# Altium integrated library Xilinx PLD XC9500.IntLib: 114 symbols (part 2 of 7)
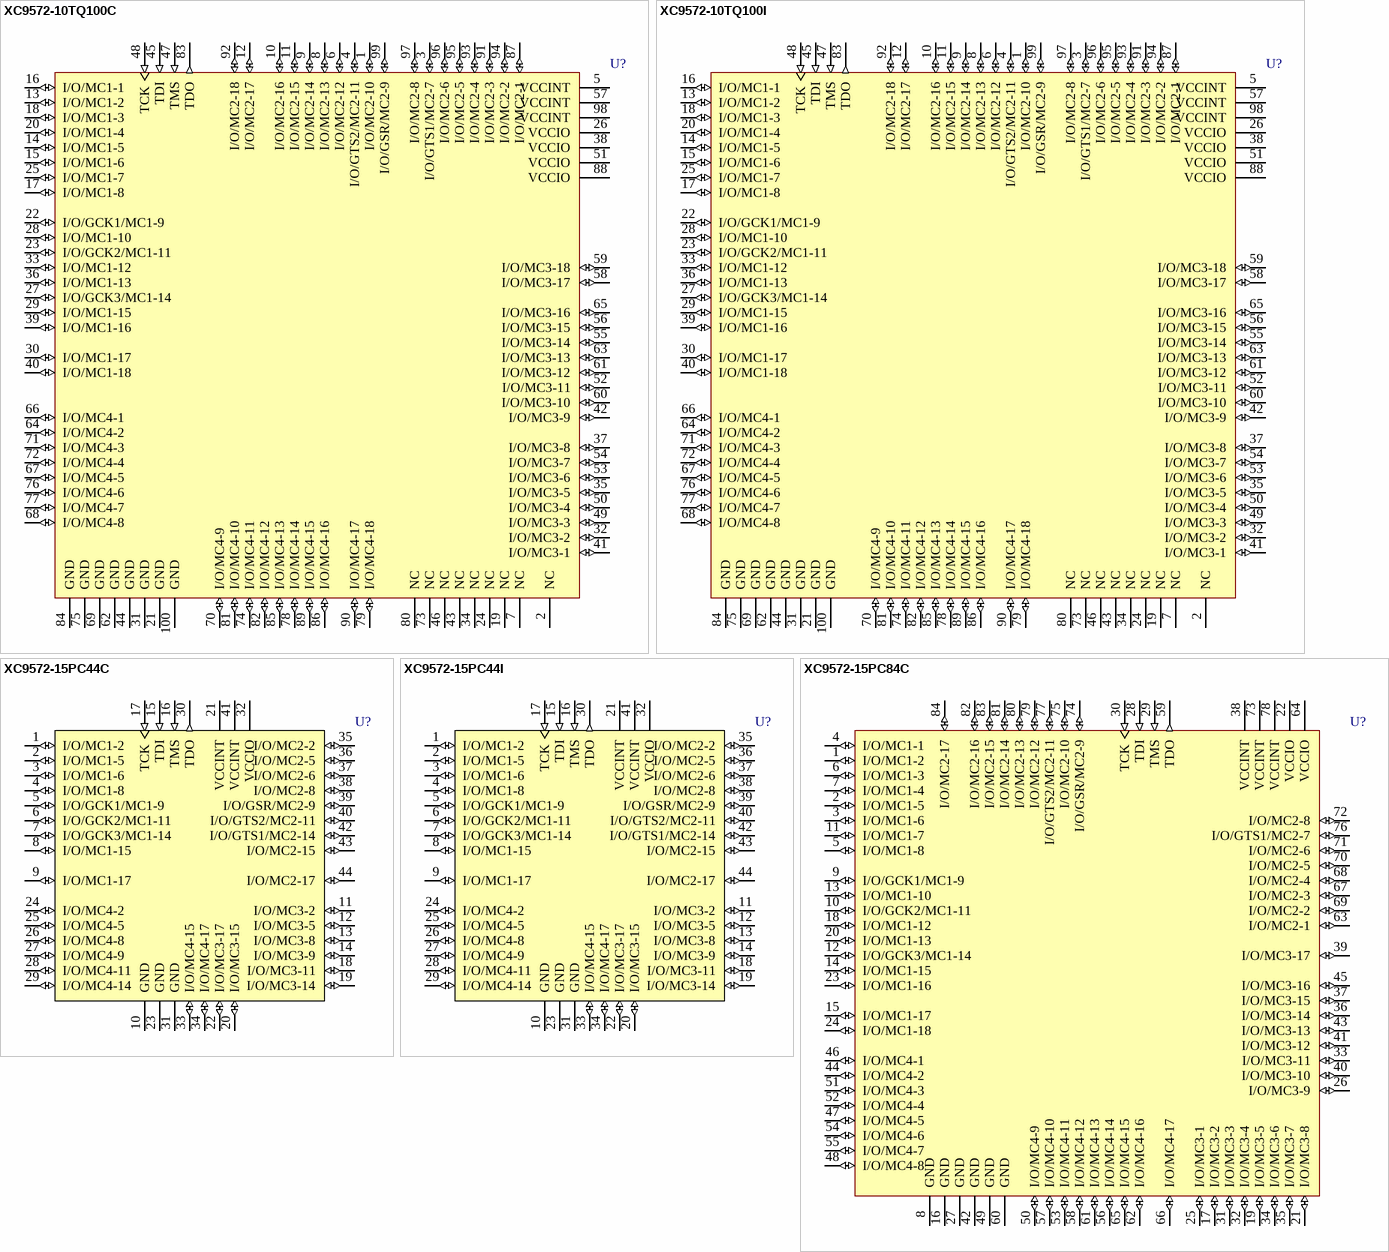
[diagram p51: symbols XC9572-10TQ100C to XC9572-15PC84C]

## XC9572-15PC44C
designator U?
XC9500, 5V CPLD with 72 Macrocells, 44-Pin PLCC, Commercial Grade; PackageDocument: ver1.0, Jun-2000; Published: 8-Jun-2000; LatestRevisionDate: 17-Sep-2003; LatestRevisionNote: PCB Footprint dimensions updated; DatasheetDocument: ver4.1, Aug-2003; PackageReference: PC44; Publisher: Altium Limited; Code_JEDEC: MS-047; Code_IPC: PLCC-44
footprint PC44 (44-Pin Plastic Leaded Chip Carrier (PC44))
3D model XC9572-PC44 (44-Pin Plastic Leaded Chip Carrier (PC44))
signal-integrity model XC9572_PLCC44 (XC9500)
pins: 1 I/O/MC1-2 (io), 2 I/O/MC1-5 (io), 3 I/O/MC1-6 (io), 4 I/O/MC1-8 (io), 5 I/O/GCK1/MC1-9 (io), 6 I/O/GCK2/MC1-11 (io), 7 I/O/GCK3/MC1-14 (io), 8 I/O/MC1-15 (io), 9 I/O/MC1-17 (io), 10 GND (power), 11 I/O/MC3-2 (io), 12 I/O/MC3-5 (io), 13 I/O/MC3-8 (io), 14 I/O/MC3-9 (io), 15 TDI (in), 16 TMS (in), 17 TCK (in), 18 I/O/MC3-11 (io), 19 I/O/MC3-14 (io), 20 I/O/MC3-15 (io), 21 VCCINT (power), 22 I/O/MC3-17 (io), 23 GND (power), 24 I/O/MC4-2 (io), 25 I/O/MC4-5 (io), 26 I/O/MC4-8 (io), 27 I/O/MC4-9 (io), 28 I/O/MC4-11 (io), 29 I/O/MC4-14 (io), 30 TDO (out), 31 GND (power), 32 VCCIO (power), 33 I/O/MC4-15 (io), 34 I/O/MC4-17 (io), 35 I/O/MC2-2 (io), 36 I/O/MC2-5 (io), 37 I/O/MC2-6 (io), 38 I/O/MC2-8 (io), 39 I/O/GSR/MC2-9 (io), 40 I/O/GTS2/MC2-11 (io), 41 VCCINT (power), 42 I/O/GTS1/MC2-14 (io), 43 I/O/MC2-15 (io), 44 I/O/MC2-17 (io)

## XC9572-15PC44I
designator U?
XC9500, 5V CPLD with 72 Macrocells, 44-Pin PLCC, Industrial Grade; PackageDocument: ver1.0, Jun-2000; Published: 8-Jun-2000; LatestRevisionDate: 17-Sep-2003; LatestRevisionNote: PCB Footprint dimensions updated; DatasheetDocument: ver4.1, Aug-2003; PackageReference: PC44; Publisher: Altium Limited; Code_JEDEC: MS-047; Code_IPC: PLCC-44
footprint PC44 (44-Pin Plastic Leaded Chip Carrier (PC44))
3D model XC9572-PC44 (44-Pin Plastic Leaded Chip Carrier (PC44))
signal-integrity model XC9572_PLCC44 (XC9500)
pins: 1 I/O/MC1-2 (io), 2 I/O/MC1-5 (io), 3 I/O/MC1-6 (io), 4 I/O/MC1-8 (io), 5 I/O/GCK1/MC1-9 (io), 6 I/O/GCK2/MC1-11 (io), 7 I/O/GCK3/MC1-14 (io), 8 I/O/MC1-15 (io), 9 I/O/MC1-17 (io), 10 GND (power), 11 I/O/MC3-2 (io), 12 I/O/MC3-5 (io), 13 I/O/MC3-8 (io), 14 I/O/MC3-9 (io), 15 TDI (in), 16 TMS (in), 17 TCK (in), 18 I/O/MC3-11 (io), 19 I/O/MC3-14 (io), 20 I/O/MC3-15 (io), 21 VCCINT (power), 22 I/O/MC3-17 (io), 23 GND (power), 24 I/O/MC4-2 (io), 25 I/O/MC4-5 (io), 26 I/O/MC4-8 (io), 27 I/O/MC4-9 (io), 28 I/O/MC4-11 (io), 29 I/O/MC4-14 (io), 30 TDO (out), 31 GND (power), 32 VCCIO (power), 33 I/O/MC4-15 (io), 34 I/O/MC4-17 (io), 35 I/O/MC2-2 (io), 36 I/O/MC2-5 (io), 37 I/O/MC2-6 (io), 38 I/O/MC2-8 (io), 39 I/O/GSR/MC2-9 (io), 40 I/O/GTS2/MC2-11 (io), 41 VCCINT (power), 42 I/O/GTS1/MC2-14 (io), 43 I/O/MC2-15 (io), 44 I/O/MC2-17 (io)

## XC9572-15PC84C
designator U?
XC9500, 5V CPLD with 72 Macrocells, 84-Pin PLCC, Commercial Grade; PackageDocument: ver1.0, Jun-2000; Published: 8-Jun-2000; LatestRevisionDate: 17-Sep-2003; LatestRevisionNote: PCB Footprint dimensions updated; DatasheetDocument: ver4.1, Aug-2003; PackageReference: PC84; Publisher: Altium Limited; Code_JEDEC: MS-047; Code_IPC: PLCC-84
footprint PC84 (84-Pin Plastic Leaded Chip Carrier (PC84))
3D model XC9572-PC84 (84-Pin Plastic Leaded Chip Carrier (PC84))
signal-integrity model XC9572_PLCC84 (XC9500)
pins: 1 I/O/MC1-2 (io), 2 I/O/MC1-5 (io), 3 I/O/MC1-6 (io), 4 I/O/MC1-1 (io), 5 I/O/MC1-8 (io), 6 I/O/MC1-3 (io), 7 I/O/MC1-4 (io), 8 GND (power), 9 I/O/GCK1/MC1-9 (io), 10 I/O/GCK2/MC1-11 (io), 11 I/O/MC1-7 (io), 12 I/O/GCK3/MC1-14 (io), 13 I/O/MC1-10 (io), 14 I/O/MC1-15 (io), 15 I/O/MC1-17 (io), 16 GND (power), 17 I/O/MC3-2 (io), 18 I/O/MC1-12 (io), 19 I/O/MC3-5 (io), 20 I/O/MC1-13 (io), 21 I/O/MC3-8 (io), 22 VCCIO (power), 23 I/O/MC1-16 (io), 24 I/O/MC1-18 (io), 25 I/O/MC3-1 (io), 26 I/O/MC3-9 (io), 27 GND (power), 28 TDI (in), 29 TMS (in), 30 TCK (in), 31 I/O/MC3-3 (io), 32 I/O/MC3-4 (io), 33 I/O/MC3-11 (io), 34 I/O/MC3-6 (io), 35 I/O/MC3-7 (io), 36 I/O/MC3-14 (io), 37 I/O/MC3-15 (io), 38 VCCINT (power), 39 I/O/MC3-17 (io), 40 I/O/MC3-10 (io), 41 I/O/MC3-12 (io), 42 GND (power), 43 I/O/MC3-13 (io), 44 I/O/MC4-2 (io), 45 I/O/MC3-16 (io), 46 I/O/MC4-1 (io), 47 I/O/MC4-5 (io), 48 I/O/MC4-8 (io), 49 GND (power), 50 I/O/MC4-9 (io), 51 I/O/MC4-3 (io), 52 I/O/MC4-4 (io), 53 I/O/MC4-11 (io), 54 I/O/MC4-6 (io), 55 I/O/MC4-7 (io), 56 I/O/MC4-14 (io), 57 I/O/MC4-10 (io), 58 I/O/MC4-12 (io), 59 TDO (out), 60 GND (power), 61 I/O/MC4-13 (io), 62 I/O/MC4-16 (io), 63 I/O/MC2-1 (io), 64 VCCIO (power), 65 I/O/MC4-15 (io), 66 I/O/MC4-17 (io), 67 I/O/MC2-3 (io), 68 I/O/MC2-4 (io), 69 I/O/MC2-2 (io), 70 I/O/MC2-5 (io), 71 I/O/MC2-6 (io), 72 I/O/MC2-8 (io), 73 VCCINT (power), 74 I/O/GSR/MC2-9 (io), 75 I/O/MC2-10 (io), 76 I/O/GTS1/MC2-7 (io), 77 I/O/GTS2/MC2-11 (io), 78 VCCINT (power), 79 I/O/MC2-12 (io), 80 I/O/MC2-13 (io), 81 I/O/MC2-14 (io), 82 I/O/MC2-16 (io), 83 I/O/MC2-15 (io), 84 I/O/MC2-17 (io)

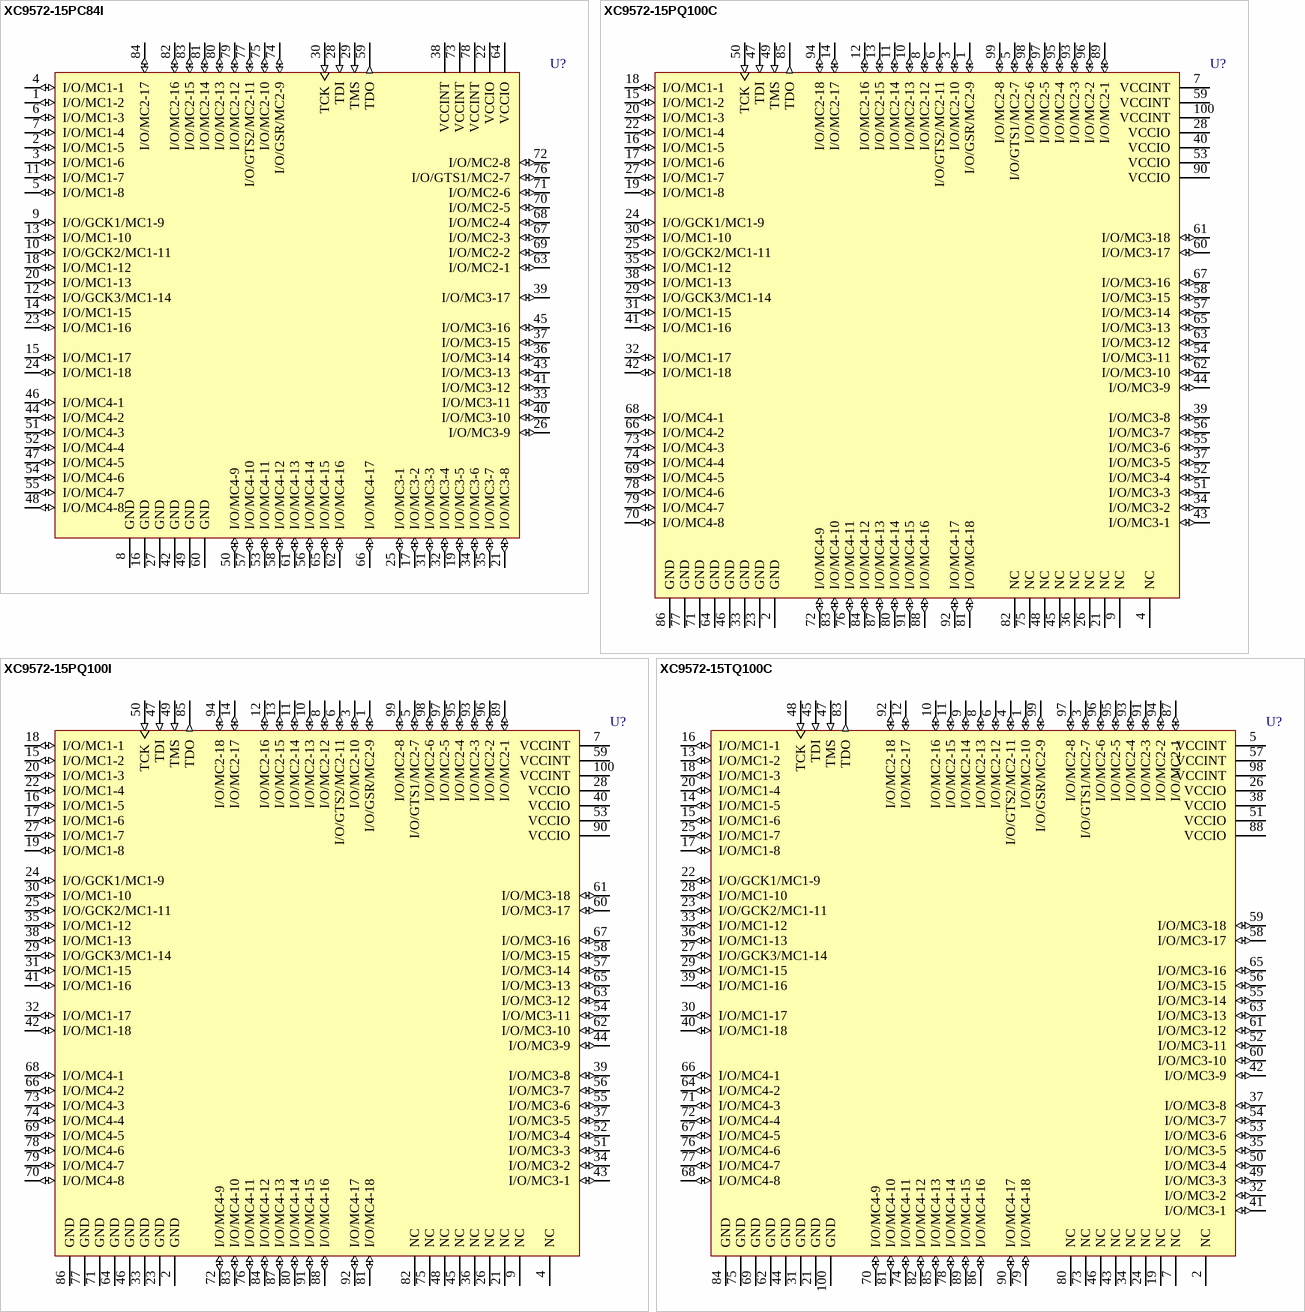
[diagram p5: symbols XC9572-15PC84I to XC9572-15TQ100C]

## XC9572-15PC84I
designator U?
XC9500, 5V CPLD with 72 Macrocells, 84-Pin PLCC, Industrial Grade; PackageDocument: ver1.0, Jun-2000; Published: 8-Jun-2000; LatestRevisionDate: 17-Sep-2003; LatestRevisionNote: PCB Footprint dimensions updated; DatasheetDocument: ver4.1, Aug-2003; PackageReference: PC84; Publisher: Altium Limited; Code_JEDEC: MS-047; Code_IPC: PLCC-84
footprint PC84 (84-Pin Plastic Leaded Chip Carrier (PC84))
3D model XC9572-PC84 (84-Pin Plastic Leaded Chip Carrier (PC84))
signal-integrity model XC9572_PLCC84 (XC9500)
pins: 1 I/O/MC1-2 (io), 2 I/O/MC1-5 (io), 3 I/O/MC1-6 (io), 4 I/O/MC1-1 (io), 5 I/O/MC1-8 (io), 6 I/O/MC1-3 (io), 7 I/O/MC1-4 (io), 8 GND (power), 9 I/O/GCK1/MC1-9 (io), 10 I/O/GCK2/MC1-11 (io), 11 I/O/MC1-7 (io), 12 I/O/GCK3/MC1-14 (io), 13 I/O/MC1-10 (io), 14 I/O/MC1-15 (io), 15 I/O/MC1-17 (io), 16 GND (power), 17 I/O/MC3-2 (io), 18 I/O/MC1-12 (io), 19 I/O/MC3-5 (io), 20 I/O/MC1-13 (io), 21 I/O/MC3-8 (io), 22 VCCIO (power), 23 I/O/MC1-16 (io), 24 I/O/MC1-18 (io), 25 I/O/MC3-1 (io), 26 I/O/MC3-9 (io), 27 GND (power), 28 TDI (in), 29 TMS (in), 30 TCK (in), 31 I/O/MC3-3 (io), 32 I/O/MC3-4 (io), 33 I/O/MC3-11 (io), 34 I/O/MC3-6 (io), 35 I/O/MC3-7 (io), 36 I/O/MC3-14 (io), 37 I/O/MC3-15 (io), 38 VCCINT (power), 39 I/O/MC3-17 (io), 40 I/O/MC3-10 (io), 41 I/O/MC3-12 (io), 42 GND (power), 43 I/O/MC3-13 (io), 44 I/O/MC4-2 (io), 45 I/O/MC3-16 (io), 46 I/O/MC4-1 (io), 47 I/O/MC4-5 (io), 48 I/O/MC4-8 (io), 49 GND (power), 50 I/O/MC4-9 (io), 51 I/O/MC4-3 (io), 52 I/O/MC4-4 (io), 53 I/O/MC4-11 (io), 54 I/O/MC4-6 (io), 55 I/O/MC4-7 (io), 56 I/O/MC4-14 (io), 57 I/O/MC4-10 (io), 58 I/O/MC4-12 (io), 59 TDO (out), 60 GND (power), 61 I/O/MC4-13 (io), 62 I/O/MC4-16 (io), 63 I/O/MC2-1 (io), 64 VCCIO (power), 65 I/O/MC4-15 (io), 66 I/O/MC4-17 (io), 67 I/O/MC2-3 (io), 68 I/O/MC2-4 (io), 69 I/O/MC2-2 (io), 70 I/O/MC2-5 (io), 71 I/O/MC2-6 (io), 72 I/O/MC2-8 (io), 73 VCCINT (power), 74 I/O/GSR/MC2-9 (io), 75 I/O/MC2-10 (io), 76 I/O/GTS1/MC2-7 (io), 77 I/O/GTS2/MC2-11 (io), 78 VCCINT (power), 79 I/O/MC2-12 (io), 80 I/O/MC2-13 (io), 81 I/O/MC2-14 (io), 82 I/O/MC2-16 (io), 83 I/O/MC2-15 (io), 84 I/O/MC2-17 (io)

## XC9572-15PQ100C
designator U?
XC9500, 5V CPLD with 72 Macrocells, 100-Pin PQFP, Commercial Grade; PackageDocument: ver1.2, Oct-2002; Published: 8-Jun-2000; LatestRevisionDate: 17-Sep-2003; LatestRevisionNote: PCB Footprint dimensions updated; DatasheetDocument: ver4.1, Aug-2003; PackageReference: PQ100; Publisher: Altium Limited; Code_IPC: QFP-14X20-100
footprint PQ100 (100-Pin Plastic Quad Flat Pack (PQ100))
3D model XC9572-PQ100 (100-Pin Plastic Quad Flat Pack (PQ100))
signal-integrity model XC9572_PQ100 (XC9500)
pins: 1 I/O/GSR/MC2-9 (io), 2 GND (power), 3 I/O/MC2-10 (io), 4 NC, 5 I/O/GTS1/MC2-7 (io), 6 I/O/GTS2/MC2-11 (io), 7 VCCINT (power), 8 I/O/MC2-12 (io), 9 NC, 10 I/O/MC2-13 (io), 11 I/O/MC2-14 (io), 12 I/O/MC2-16 (io), 13 I/O/MC2-15 (io), 14 I/O/MC2-17 (io), 15 I/O/MC1-2 (io), 16 I/O/MC1-5 (io), 17 I/O/MC1-6 (io), 18 I/O/MC1-1 (io), 19 I/O/MC1-8 (io), 20 I/O/MC1-3 (io), 21 NC, 22 I/O/MC1-4 (io), 23 GND (power), 24 I/O/GCK1/MC1-9 (io), 25 I/O/GCK2/MC1-11 (io), 26 NC, 27 I/O/MC1-7 (io), 28 VCCIO (power), 29 I/O/GCK3/MC1-14 (io), 30 I/O/MC1-10 (io), 31 I/O/MC1-15 (io), 32 I/O/MC1-17 (io), 33 GND (power), 34 I/O/MC3-2 (io), 35 I/O/MC1-12 (io), 36 NC, 37 I/O/MC3-5 (io), 38 I/O/MC1-13 (io), 39 I/O/MC3-8 (io), 40 VCCIO (power), 41 I/O/MC1-16 (io), 42 I/O/MC1-18 (io), 43 I/O/MC3-1 (io), 44 I/O/MC3-9 (io), 45 NC, 46 GND (power), 47 TDI (in), 48 NC, 49 TMS (in), 50 TCK (in), 51 I/O/MC3-3 (io), 52 I/O/MC3-4 (io), 53 VCCIO (power), 54 I/O/MC3-11 (io), 55 I/O/MC3-6 (io), 56 I/O/MC3-7 (io), 57 I/O/MC3-14 (io), 58 I/O/MC3-15 (io), 59 VCCINT (power), 60 I/O/MC3-17 (io), 61 I/O/MC3-18 (io), 62 I/O/MC3-10 (io), 63 I/O/MC3-12 (io), 64 GND (power), 65 I/O/MC3-13 (io), 66 I/O/MC4-2 (io), 67 I/O/MC3-16 (io), 68 I/O/MC4-1 (io), 69 I/O/MC4-5 (io), 70 I/O/MC4-8 (io), 71 GND (power), 72 I/O/MC4-9 (io), 73 I/O/MC4-3 (io), 74 I/O/MC4-4 (io), 75 NC, 76 I/O/MC4-11 (io), 77 GND (power), 78 I/O/MC4-6 (io), 79 I/O/MC4-7 (io), 80 I/O/MC4-14 (io), 81 I/O/MC4-18 (io), 82 NC, 83 I/O/MC4-10 (io), 84 I/O/MC4-12 (io), 85 TDO (out), 86 GND (power), 87 I/O/MC4-13 (io), 88 I/O/MC4-16 (io), 89 I/O/MC2-1 (io), 90 VCCIO (power), 91 I/O/MC4-15 (io), 92 I/O/MC4-17 (io), 93 I/O/MC2-3 (io), 94 I/O/MC2-18 (io), 95 I/O/MC2-4 (io), 96 I/O/MC2-2 (io), 97 I/O/MC2-5 (io), 98 I/O/MC2-6 (io), 99 I/O/MC2-8 (io), 100 VCCINT (power)

## XC9572-15PQ100I
designator U?
XC9500, 5V CPLD with 72 Macrocells, 100-Pin PQFP, Industrial Grade; PackageDocument: ver1.2, Oct-2002; Published: 8-Jun-2000; LatestRevisionDate: 17-Sep-2003; LatestRevisionNote: PCB Footprint dimensions updated; DatasheetDocument: ver4.1, Aug-2003; PackageReference: PQ100; Publisher: Altium Limited; Code_IPC: QFP-14X20-100
footprint PQ100 (100-Pin Plastic Quad Flat Pack (PQ100))
3D model XC9572-PQ100 (100-Pin Plastic Quad Flat Pack (PQ100))
signal-integrity model XC9572_PQ100 (XC9500)
pins: 1 I/O/GSR/MC2-9 (io), 2 GND (power), 3 I/O/MC2-10 (io), 4 NC, 5 I/O/GTS1/MC2-7 (io), 6 I/O/GTS2/MC2-11 (io), 7 VCCINT (power), 8 I/O/MC2-12 (io), 9 NC, 10 I/O/MC2-13 (io), 11 I/O/MC2-14 (io), 12 I/O/MC2-16 (io), 13 I/O/MC2-15 (io), 14 I/O/MC2-17 (io), 15 I/O/MC1-2 (io), 16 I/O/MC1-5 (io), 17 I/O/MC1-6 (io), 18 I/O/MC1-1 (io), 19 I/O/MC1-8 (io), 20 I/O/MC1-3 (io), 21 NC, 22 I/O/MC1-4 (io), 23 GND (power), 24 I/O/GCK1/MC1-9 (io), 25 I/O/GCK2/MC1-11 (io), 26 NC, 27 I/O/MC1-7 (io), 28 VCCIO (power), 29 I/O/GCK3/MC1-14 (io), 30 I/O/MC1-10 (io), 31 I/O/MC1-15 (io), 32 I/O/MC1-17 (io), 33 GND (power), 34 I/O/MC3-2 (io), 35 I/O/MC1-12 (io), 36 NC, 37 I/O/MC3-5 (io), 38 I/O/MC1-13 (io), 39 I/O/MC3-8 (io), 40 VCCIO (power), 41 I/O/MC1-16 (io), 42 I/O/MC1-18 (io), 43 I/O/MC3-1 (io), 44 I/O/MC3-9 (io), 45 NC, 46 GND (power), 47 TDI (in), 48 NC, 49 TMS (in), 50 TCK (in), 51 I/O/MC3-3 (io), 52 I/O/MC3-4 (io), 53 VCCIO (power), 54 I/O/MC3-11 (io), 55 I/O/MC3-6 (io), 56 I/O/MC3-7 (io), 57 I/O/MC3-14 (io), 58 I/O/MC3-15 (io), 59 VCCINT (power), 60 I/O/MC3-17 (io), 61 I/O/MC3-18 (io), 62 I/O/MC3-10 (io), 63 I/O/MC3-12 (io), 64 GND (power), 65 I/O/MC3-13 (io), 66 I/O/MC4-2 (io), 67 I/O/MC3-16 (io), 68 I/O/MC4-1 (io), 69 I/O/MC4-5 (io), 70 I/O/MC4-8 (io), 71 GND (power), 72 I/O/MC4-9 (io), 73 I/O/MC4-3 (io), 74 I/O/MC4-4 (io), 75 NC, 76 I/O/MC4-11 (io), 77 GND (power), 78 I/O/MC4-6 (io), 79 I/O/MC4-7 (io), 80 I/O/MC4-14 (io), 81 I/O/MC4-18 (io), 82 NC, 83 I/O/MC4-10 (io), 84 I/O/MC4-12 (io), 85 TDO (out), 86 GND (power), 87 I/O/MC4-13 (io), 88 I/O/MC4-16 (io), 89 I/O/MC2-1 (io), 90 VCCIO (power), 91 I/O/MC4-15 (io), 92 I/O/MC4-17 (io), 93 I/O/MC2-3 (io), 94 I/O/MC2-18 (io), 95 I/O/MC2-4 (io), 96 I/O/MC2-2 (io), 97 I/O/MC2-5 (io), 98 I/O/MC2-6 (io), 99 I/O/MC2-8 (io), 100 VCCINT (power)

## XC9572-15TQ100C
designator U?
XC9500, 5V CPLD with 72 Macrocells, 100-Pin TQFP, Commercial Grade; PackageDocument: ver1.1, Oct-2002; Published: 8-Jun-2000; LatestRevisionDate: 17-Jul-2002; LatestRevisionNote: Re-released for DXP Platform.; DatasheetDocument: ver4.1, Aug-2003; PackageReference: TQ100; Publisher: Altium Limited; Code_IPC: SQFP14X14-100
footprint TQ100 (100-Pin Thin Quad Flat Pack (TQ100))
3D model XC9572-TQ100 (100-Pin Thin Quad Flat Pack (TQ100))
signal-integrity model XC9572_TQ100 (XC9500)
pins: 1 I/O/MC2-10 (io), 2 NC, 3 I/O/GTS1/MC2-7 (io), 4 I/O/GTS2/MC2-11 (io), 5 VCCINT (power), 6 I/O/MC2-12 (io), 7 NC, 8 I/O/MC2-13 (io), 9 I/O/MC2-14 (io), 10 I/O/MC2-16 (io), 11 I/O/MC2-15 (io), 12 I/O/MC2-17 (io), 13 I/O/MC1-2 (io), 14 I/O/MC1-5 (io), 15 I/O/MC1-6 (io), 16 I/O/MC1-1 (io), 17 I/O/MC1-8 (io), 18 I/O/MC1-3 (io), 19 NC, 20 I/O/MC1-4 (io), 21 GND (power), 22 I/O/GCK1/MC1-9 (io), 23 I/O/GCK2/MC1-11 (io), 24 NC, 25 I/O/MC1-7 (io), 26 VCCIO (power), 27 I/O/GCK3/MC1-14 (io), 28 I/O/MC1-10 (io), 29 I/O/MC1-15 (io), 30 I/O/MC1-17 (io), 31 GND (power), 32 I/O/MC3-2 (io), 33 I/O/MC1-12 (io), 34 NC, 35 I/O/MC3-5 (io), 36 I/O/MC1-13 (io), 37 I/O/MC3-8 (io), 38 VCCIO (power), 39 I/O/MC1-16 (io), 40 I/O/MC1-18 (io), 41 I/O/MC3-1 (io), 42 I/O/MC3-9 (io), 43 NC, 44 GND (power), 45 TDI (in), 46 NC, 47 TMS (in), 48 TCK (in), 49 I/O/MC3-3 (io), 50 I/O/MC3-4 (io), 51 VCCIO (power), 52 I/O/MC3-11 (io), 53 I/O/MC3-6 (io), 54 I/O/MC3-7 (io), 55 I/O/MC3-14 (io), 56 I/O/MC3-15 (io), 57 VCCINT (power), 58 I/O/MC3-17 (io), 59 I/O/MC3-18 (io), 60 I/O/MC3-10 (io), 61 I/O/MC3-12 (io), 62 GND (power), 63 I/O/MC3-13 (io), 64 I/O/MC4-2 (io), 65 I/O/MC3-16 (io), 66 I/O/MC4-1 (io), 67 I/O/MC4-5 (io), 68 I/O/MC4-8 (io), 69 GND (power), 70 I/O/MC4-9 (io), 71 I/O/MC4-3 (io), 72 I/O/MC4-4 (io), 73 NC, 74 I/O/MC4-11 (io), 75 GND (power), 76 I/O/MC4-6 (io), 77 I/O/MC4-7 (io), 78 I/O/MC4-14 (io), 79 I/O/MC4-18 (io), 80 NC, 81 I/O/MC4-10 (io), 82 I/O/MC4-12 (io), 83 TDO (out), 84 GND (power), 85 I/O/MC4-13 (io), 86 I/O/MC4-16 (io), 87 I/O/MC2-1 (io), 88 VCCIO (power), 89 I/O/MC4-15 (io), 90 I/O/MC4-17 (io), 91 I/O/MC2-3 (io), 92 I/O/MC2-18 (io), 93 I/O/MC2-4 (io), 94 I/O/MC2-2 (io), 95 I/O/MC2-5 (io), 96 I/O/MC2-6 (io), 97 I/O/MC2-8 (io), 98 VCCINT (power), 99 I/O/GSR/MC2-9 (io), 100 GND (power)

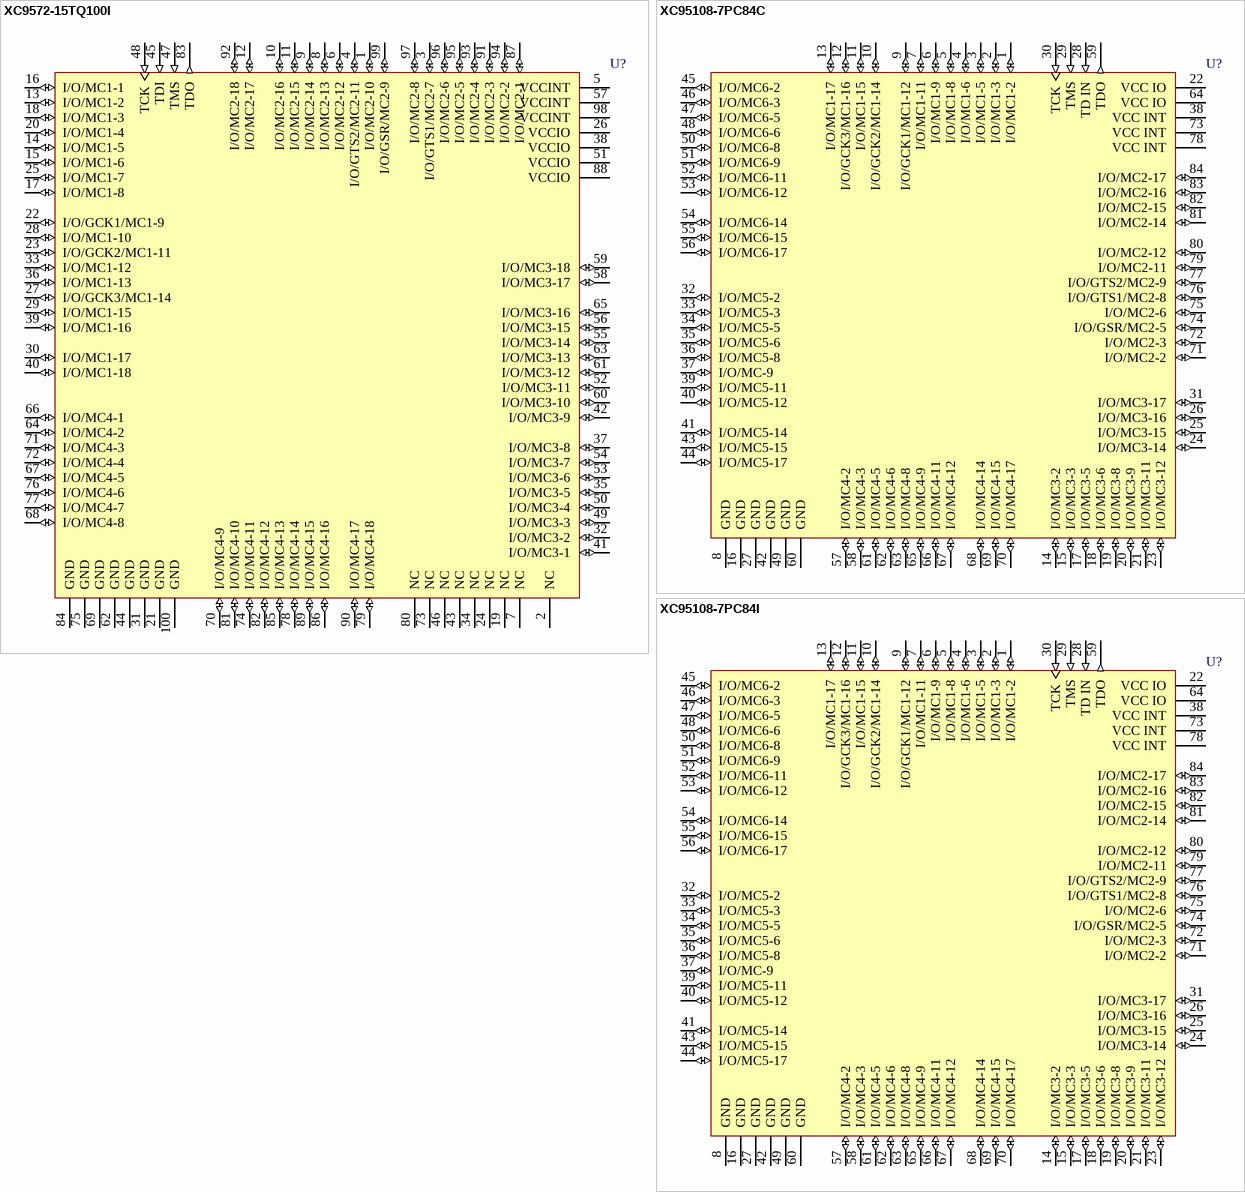
[diagram p6: symbols XC9572-15TQ100I to XC95108-7PC84I]

## XC9572-15TQ100I
designator U?
XC9500, 5V CPLD with 72 Macrocells, 100-Pin TQFP, Industrial Grade; PackageDocument: ver1.1, Oct-2002; Published: 8-Jun-2000; LatestRevisionDate: 17-Jul-2002; LatestRevisionNote: Re-released for DXP Platform.; DatasheetDocument: ver4.1, Aug-2003; PackageReference: TQ100; Publisher: Altium Limited; Code_IPC: SQFP14X14-100
footprint TQ100 (100-Pin Thin Quad Flat Pack (TQ100))
3D model XC9572-TQ100 (100-Pin Thin Quad Flat Pack (TQ100))
signal-integrity model XC9572_TQ100 (XC9500)
pins: 1 I/O/MC2-10 (io), 2 NC, 3 I/O/GTS1/MC2-7 (io), 4 I/O/GTS2/MC2-11 (io), 5 VCCINT (power), 6 I/O/MC2-12 (io), 7 NC, 8 I/O/MC2-13 (io), 9 I/O/MC2-14 (io), 10 I/O/MC2-16 (io), 11 I/O/MC2-15 (io), 12 I/O/MC2-17 (io), 13 I/O/MC1-2 (io), 14 I/O/MC1-5 (io), 15 I/O/MC1-6 (io), 16 I/O/MC1-1 (io), 17 I/O/MC1-8 (io), 18 I/O/MC1-3 (io), 19 NC, 20 I/O/MC1-4 (io), 21 GND (power), 22 I/O/GCK1/MC1-9 (io), 23 I/O/GCK2/MC1-11 (io), 24 NC, 25 I/O/MC1-7 (io), 26 VCCIO (power), 27 I/O/GCK3/MC1-14 (io), 28 I/O/MC1-10 (io), 29 I/O/MC1-15 (io), 30 I/O/MC1-17 (io), 31 GND (power), 32 I/O/MC3-2 (io), 33 I/O/MC1-12 (io), 34 NC, 35 I/O/MC3-5 (io), 36 I/O/MC1-13 (io), 37 I/O/MC3-8 (io), 38 VCCIO (power), 39 I/O/MC1-16 (io), 40 I/O/MC1-18 (io), 41 I/O/MC3-1 (io), 42 I/O/MC3-9 (io), 43 NC, 44 GND (power), 45 TDI (in), 46 NC, 47 TMS (in), 48 TCK (in), 49 I/O/MC3-3 (io), 50 I/O/MC3-4 (io), 51 VCCIO (power), 52 I/O/MC3-11 (io), 53 I/O/MC3-6 (io), 54 I/O/MC3-7 (io), 55 I/O/MC3-14 (io), 56 I/O/MC3-15 (io), 57 VCCINT (power), 58 I/O/MC3-17 (io), 59 I/O/MC3-18 (io), 60 I/O/MC3-10 (io), 61 I/O/MC3-12 (io), 62 GND (power), 63 I/O/MC3-13 (io), 64 I/O/MC4-2 (io), 65 I/O/MC3-16 (io), 66 I/O/MC4-1 (io), 67 I/O/MC4-5 (io), 68 I/O/MC4-8 (io), 69 GND (power), 70 I/O/MC4-9 (io), 71 I/O/MC4-3 (io), 72 I/O/MC4-4 (io), 73 NC, 74 I/O/MC4-11 (io), 75 GND (power), 76 I/O/MC4-6 (io), 77 I/O/MC4-7 (io), 78 I/O/MC4-14 (io), 79 I/O/MC4-18 (io), 80 NC, 81 I/O/MC4-10 (io), 82 I/O/MC4-12 (io), 83 TDO (out), 84 GND (power), 85 I/O/MC4-13 (io), 86 I/O/MC4-16 (io), 87 I/O/MC2-1 (io), 88 VCCIO (power), 89 I/O/MC4-15 (io), 90 I/O/MC4-17 (io), 91 I/O/MC2-3 (io), 92 I/O/MC2-18 (io), 93 I/O/MC2-4 (io), 94 I/O/MC2-2 (io), 95 I/O/MC2-5 (io), 96 I/O/MC2-6 (io), 97 I/O/MC2-8 (io), 98 VCCINT (power), 99 I/O/GSR/MC2-9 (io), 100 GND (power)

## XC95108-7PC84C
designator U?
XC9500, 5V CPLD with 108 Macrocells, 84-Pin PLCC, Commercial Grade; PackageDocument: ver1.0, Jun-2000; Published: 8-Jun-2000; LatestRevisionDate: 17-Sep-2003; LatestRevisionNote: PCB Footprint dimensions updated; DatasheetDocument: ver4.3, Mar-2004; PackageReference: PC84; Publisher: Altium Limited; Code_JEDEC: MS-047; Code_IPC: PLCC-84
footprint PC84 (84-Pin Plastic Leaded Chip Carrier (PC84))
3D model XC95108-PC84 (84-Pin Plastic Leaded Chip Carrier (PC84))
signal-integrity model XC95108_PLCC84 (XC9500)
pins: 1 I/O/MC1-2 (io), 2 I/O/MC1-3 (io), 3 I/O/MC1-5 (io), 4 I/O/MC1-6 (io), 5 I/O/MC1-8 (io), 6 I/O/MC1-9 (io), 7 I/O/MC1-11 (io), 8 GND (power), 9 I/O/GCK1/MC1-12 (io), 10 I/O/GCK2/MC1-14 (io), 11 I/O/MC1-15 (io), 12 I/O/GCK3/MC1-16 (io), 13 I/O/MC1-17 (io), 14 I/O/MC3-2 (io), 15 I/O/MC3-3 (io), 16 GND (power), 17 I/O/MC3-5 (io), 18 I/O/MC3-6 (io), 19 I/O/MC3-8 (io), 20 I/O/MC3-9 (io), 21 I/O/MC3-11 (io), 22 VCC IO (power), 23 I/O/MC3-12 (io), 24 I/O/MC3-14 (io), 25 I/O/MC3-15 (io), 26 I/O/MC3-16 (io), 27 GND (power), 28 TD IN (in), 29 TMS (in), 30 TCK (in), 31 I/O/MC3-17 (io), 32 I/O/MC5-2 (io), 33 I/O/MC5-3 (io), 34 I/O/MC5-5 (io), 35 I/O/MC5-6 (io), 36 I/O/MC5-8 (io), 37 I/O/MC-9 (io), 38 VCC INT (power), 39 I/O/MC5-11 (io), 40 I/O/MC5-12 (io), 41 I/O/MC5-14 (io), 42 GND (power), 43 I/O/MC5-15 (io), 44 I/O/MC5-17 (io), 45 I/O/MC6-2 (io), 46 I/O/MC6-3 (io), 47 I/O/MC6-5 (io), 48 I/O/MC6-6 (io), 49 GND (power), 50 I/O/MC6-8 (io), 51 I/O/MC6-9 (io), 52 I/O/MC6-11 (io), 53 I/O/MC6-12 (io), 54 I/O/MC6-14 (io), 55 I/O/MC6-15 (io), 56 I/O/MC6-17 (io), 57 I/O/MC4-2 (io), 58 I/O/MC4-3 (io), 59 TDO (out), 60 GND (power), 61 I/O/MC4-5 (io), 62 I/O/MC4-6 (io), 63 I/O/MC4-8 (io), 64 VCC IO (power), 65 I/O/MC4-9 (io), 66 I/O/MC4-11 (io), 67 I/O/MC4-12 (io), 68 I/O/MC4-14 (io), 69 I/O/MC4-15 (io), 70 I/O/MC4-17 (io), 71 I/O/MC2-2 (io), 72 I/O/MC2-3 (io), 73 VCC INT (power), 74 I/O/GSR/MC2-5 (io), 75 I/O/MC2-6 (io), 76 I/O/GTS1/MC2-8 (io), 77 I/O/GTS2/MC2-9 (io), 78 VCC INT (power), 79 I/O/MC2-11 (io), 80 I/O/MC2-12 (io), 81 I/O/MC2-14 (io), 82 I/O/MC2-15 (io), 83 I/O/MC2-16 (io), 84 I/O/MC2-17 (io)

## XC95108-7PC84I
designator U?
XC9500, 5V CPLD with 108 Macrocells, 84-Pin PLCC, Industrial Grade; PackageDocument: ver1.0, Jun-2000; Published: 17-Sep-2003; DatasheetDocument: ver4.3, Mar-2004; PackageReference: PC84; Publisher: Altium Limited; Code_JEDEC: MS-047; Code_IPC: PLCC-84
footprint PC84 (84-Pin Plastic Leaded Chip Carrier (PC84))
3D model XC95108-PC84 (84-Pin Plastic Leaded Chip Carrier (PC84))
signal-integrity model XC95108_PLCC84 (XC9500)
pins: 1 I/O/MC1-2 (io), 2 I/O/MC1-3 (io), 3 I/O/MC1-5 (io), 4 I/O/MC1-6 (io), 5 I/O/MC1-8 (io), 6 I/O/MC1-9 (io), 7 I/O/MC1-11 (io), 8 GND (power), 9 I/O/GCK1/MC1-12 (io), 10 I/O/GCK2/MC1-14 (io), 11 I/O/MC1-15 (io), 12 I/O/GCK3/MC1-16 (io), 13 I/O/MC1-17 (io), 14 I/O/MC3-2 (io), 15 I/O/MC3-3 (io), 16 GND (power), 17 I/O/MC3-5 (io), 18 I/O/MC3-6 (io), 19 I/O/MC3-8 (io), 20 I/O/MC3-9 (io), 21 I/O/MC3-11 (io), 22 VCC IO (power), 23 I/O/MC3-12 (io), 24 I/O/MC3-14 (io), 25 I/O/MC3-15 (io), 26 I/O/MC3-16 (io), 27 GND (power), 28 TD IN (in), 29 TMS (in), 30 TCK (in), 31 I/O/MC3-17 (io), 32 I/O/MC5-2 (io), 33 I/O/MC5-3 (io), 34 I/O/MC5-5 (io), 35 I/O/MC5-6 (io), 36 I/O/MC5-8 (io), 37 I/O/MC-9 (io), 38 VCC INT (power), 39 I/O/MC5-11 (io), 40 I/O/MC5-12 (io), 41 I/O/MC5-14 (io), 42 GND (power), 43 I/O/MC5-15 (io), 44 I/O/MC5-17 (io), 45 I/O/MC6-2 (io), 46 I/O/MC6-3 (io), 47 I/O/MC6-5 (io), 48 I/O/MC6-6 (io), 49 GND (power), 50 I/O/MC6-8 (io), 51 I/O/MC6-9 (io), 52 I/O/MC6-11 (io), 53 I/O/MC6-12 (io), 54 I/O/MC6-14 (io), 55 I/O/MC6-15 (io), 56 I/O/MC6-17 (io), 57 I/O/MC4-2 (io), 58 I/O/MC4-3 (io), 59 TDO (out), 60 GND (power), 61 I/O/MC4-5 (io), 62 I/O/MC4-6 (io), 63 I/O/MC4-8 (io), 64 VCC IO (power), 65 I/O/MC4-9 (io), 66 I/O/MC4-11 (io), 67 I/O/MC4-12 (io), 68 I/O/MC4-14 (io), 69 I/O/MC4-15 (io), 70 I/O/MC4-17 (io), 71 I/O/MC2-2 (io), 72 I/O/MC2-3 (io), 73 VCC INT (power), 74 I/O/GSR/MC2-5 (io), 75 I/O/MC2-6 (io), 76 I/O/GTS1/MC2-8 (io), 77 I/O/GTS2/MC2-9 (io), 78 VCC INT (power), 79 I/O/MC2-11 (io), 80 I/O/MC2-12 (io), 81 I/O/MC2-14 (io), 82 I/O/MC2-15 (io), 83 I/O/MC2-16 (io), 84 I/O/MC2-17 (io)

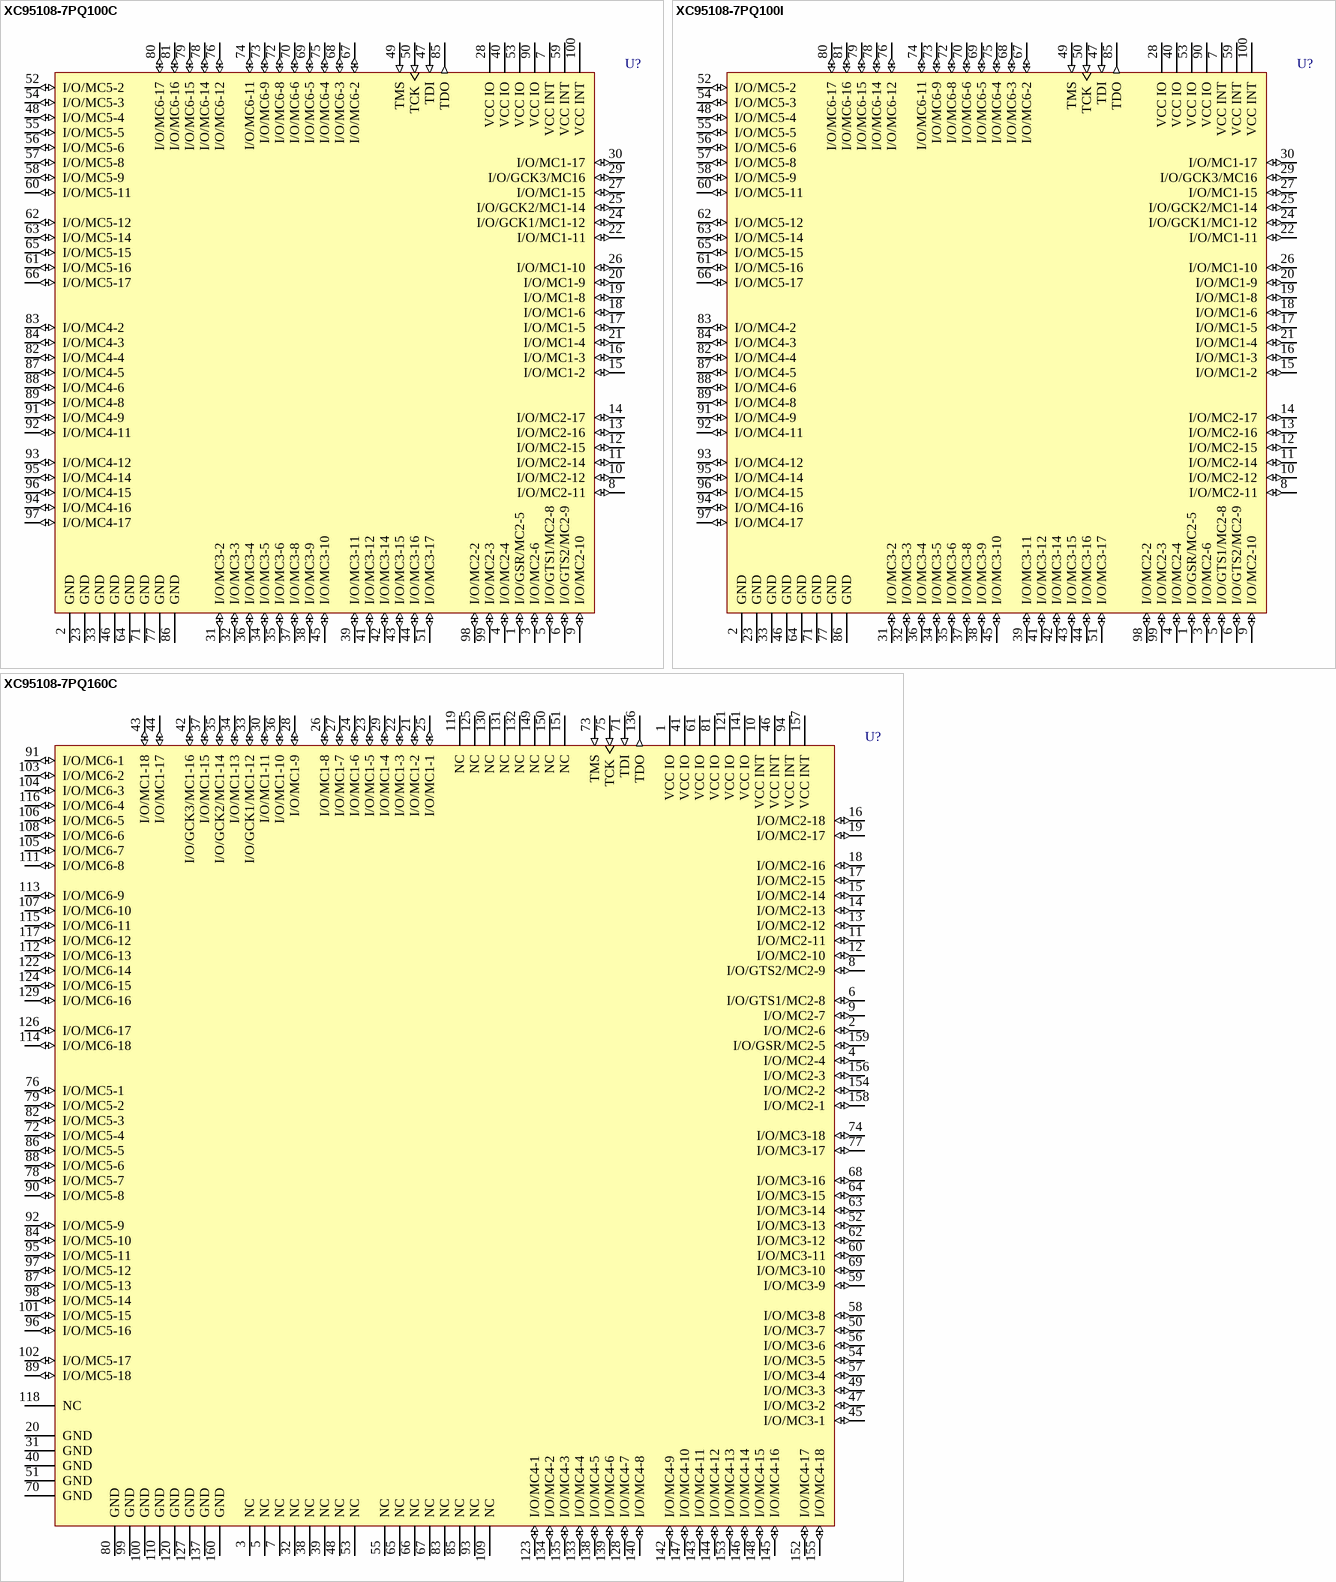
[diagram p7: symbols XC95108-7PQ100C to XC95108-7PQ160C]

## XC95108-7PQ100C
designator U?
XC9500, 5V CPLD with 108 Macrocells, 100-Pin PQFP, Commercial Grade; PackageDocument: ver1.2, Oct-2002; Published: 8-Jun-2000; LatestRevisionDate: 17-Sep-2003; LatestRevisionNote: PCB Footprint dimensions updated; DatasheetDocument: ver4.3, Mar-2004; PackageReference: PQ100; Publisher: Altium Limited; Code_IPC: QFP-14X20-100
footprint PQ100 (100-Pin Plastic Quad Flat Pack (PQ100))
3D model XC95108-PQ100 (100-Pin Plastic Quad Flat Pack (PQ100))
signal-integrity model XC95108_PQ100 (XC9500)
pins: 1 I/O/GSR/MC2-5 (io), 2 GND (power), 3 I/O/MC2-6 (io), 4 I/O/MC2-4 (io), 5 I/O/GTS1/MC2-8 (io), 6 I/O/GTS2/MC2-9 (io), 7 VCC INT (power), 8 I/O/MC2-11 (io), 9 I/O/MC2-10 (io), 10 I/O/MC2-12 (io), 11 I/O/MC2-14 (io), 12 I/O/MC2-15 (io), 13 I/O/MC2-16 (io), 14 I/O/MC2-17 (io), 15 I/O/MC1-2 (io), 16 I/O/MC1-3 (io), 17 I/O/MC1-5 (io), 18 I/O/MC1-6 (io), 19 I/O/MC1-8 (io), 20 I/O/MC1-9 (io), 21 I/O/MC1-4 (io), 22 I/O/MC1-11 (io), 23 GND (power), 24 I/O/GCK1/MC1-12 (io), 25 I/O/GCK2/MC1-14 (io), 26 I/O/MC1-10 (io), 27 I/O/MC1-15 (io), 28 VCC IO (power), 29 I/O/GCK3/MC16 (io), 30 I/O/MC1-17 (io), 31 I/O/MC3-2 (io), 32 I/O/MC3-3 (io), 33 GND (power), 34 I/O/MC3-5 (io), 35 I/O/MC3-6 (io), 36 I/O/MC3-4 (io), 37 I/O/MC3-8 (io), 38 I/O/MC3-9 (io), 39 I/O/MC3-11 (io), 40 VCC IO (power), 41 I/O/MC3-12 (io), 42 I/O/MC3-14 (io), 43 I/O/MC3-15 (io), 44 I/O/MC3-16 (io), 45 I/O/MC3-10 (io), 46 GND (power), 47 TDI (in), 48 I/O/MC5-4 (io), 49 TMS (in), 50 TCK (in), 51 I/O/MC3-17 (io), 52 I/O/MC5-2 (io), 53 VCC IO (power), 54 I/O/MC5-3 (io), 55 I/O/MC5-5 (io), 56 I/O/MC5-6 (io), 57 I/O/MC5-8 (io), 58 I/O/MC5-9 (io), 59 VCC INT (power), 60 I/O/MC5-11 (io), 61 I/O/MC5-16 (io), 62 I/O/MC5-12 (io), 63 I/O/MC5-14 (io), 64 GND (power), 65 I/O/MC5-15 (io), 66 I/O/MC5-17 (io), 67 I/O/MC6-2 (io), 68 I/O/MC6-3 (io), 69 I/O/MC6-5 (io), 70 I/O/MC6-6 (io), 71 GND (power), 72 I/O/MC6-8 (io), 73 I/O/MC6-9 (io), 74 I/O/MC6-11 (io), 75 I/O/MC6-4 (io), 76 I/O/MC6-12 (io), 77 GND (power), 78 I/O/MC6-14 (io), 79 I/O/MC6-15 (io), 80 I/O/MC6-17 (io), 81 I/O/MC6-16 (io), 82 I/O/MC4-4 (io), 83 I/O/MC4-2 (io), 84 I/O/MC4-3 (io), 85 TDO (out), 86 GND (power), 87 I/O/MC4-5 (io), 88 I/O/MC4-6 (io), 89 I/O/MC4-8 (io), 90 VCC IO (power), 91 I/O/MC4-9 (io), 92 I/O/MC4-11 (io), 93 I/O/MC4-12 (io), 94 I/O/MC4-16 (io), 95 I/O/MC4-14 (io), 96 I/O/MC4-15 (io), 97 I/O/MC4-17 (io), 98 I/O/MC2-2 (io), 99 I/O/MC2-3 (io), 100 VCC INT (power)

## XC95108-7PQ100I
designator U?
XC9500, 5V CPLD with 108 Macrocells, 100-Pin PQFP, Industrial Grade; PackageDocument: ver1.2, Oct-2002; Published: 17-Sep-2003; DatasheetDocument: ver4.3, Mar-2004; PackageReference: PQ100; Publisher: Altium Limited; Code_IPC: QFP-14X20-100
footprint PQ100 (100-Pin Plastic Quad Flat Pack (PQ100))
3D model XC95108-PQ100 (100-Pin Plastic Quad Flat Pack (PQ100))
signal-integrity model XC95108_PQ100 (XC9500)
pins: 1 I/O/GSR/MC2-5 (io), 2 GND (power), 3 I/O/MC2-6 (io), 4 I/O/MC2-4 (io), 5 I/O/GTS1/MC2-8 (io), 6 I/O/GTS2/MC2-9 (io), 7 VCC INT (power), 8 I/O/MC2-11 (io), 9 I/O/MC2-10 (io), 10 I/O/MC2-12 (io), 11 I/O/MC2-14 (io), 12 I/O/MC2-15 (io), 13 I/O/MC2-16 (io), 14 I/O/MC2-17 (io), 15 I/O/MC1-2 (io), 16 I/O/MC1-3 (io), 17 I/O/MC1-5 (io), 18 I/O/MC1-6 (io), 19 I/O/MC1-8 (io), 20 I/O/MC1-9 (io), 21 I/O/MC1-4 (io), 22 I/O/MC1-11 (io), 23 GND (power), 24 I/O/GCK1/MC1-12 (io), 25 I/O/GCK2/MC1-14 (io), 26 I/O/MC1-10 (io), 27 I/O/MC1-15 (io), 28 VCC IO (power), 29 I/O/GCK3/MC16 (io), 30 I/O/MC1-17 (io), 31 I/O/MC3-2 (io), 32 I/O/MC3-3 (io), 33 GND (power), 34 I/O/MC3-5 (io), 35 I/O/MC3-6 (io), 36 I/O/MC3-4 (io), 37 I/O/MC3-8 (io), 38 I/O/MC3-9 (io), 39 I/O/MC3-11 (io), 40 VCC IO (power), 41 I/O/MC3-12 (io), 42 I/O/MC3-14 (io), 43 I/O/MC3-15 (io), 44 I/O/MC3-16 (io), 45 I/O/MC3-10 (io), 46 GND (power), 47 TDI (in), 48 I/O/MC5-4 (io), 49 TMS (in), 50 TCK (in), 51 I/O/MC3-17 (io), 52 I/O/MC5-2 (io), 53 VCC IO (power), 54 I/O/MC5-3 (io), 55 I/O/MC5-5 (io), 56 I/O/MC5-6 (io), 57 I/O/MC5-8 (io), 58 I/O/MC5-9 (io), 59 VCC INT (power), 60 I/O/MC5-11 (io), 61 I/O/MC5-16 (io), 62 I/O/MC5-12 (io), 63 I/O/MC5-14 (io), 64 GND (power), 65 I/O/MC5-15 (io), 66 I/O/MC5-17 (io), 67 I/O/MC6-2 (io), 68 I/O/MC6-3 (io), 69 I/O/MC6-5 (io), 70 I/O/MC6-6 (io), 71 GND (power), 72 I/O/MC6-8 (io), 73 I/O/MC6-9 (io), 74 I/O/MC6-11 (io), 75 I/O/MC6-4 (io), 76 I/O/MC6-12 (io), 77 GND (power), 78 I/O/MC6-14 (io), 79 I/O/MC6-15 (io), 80 I/O/MC6-17 (io), 81 I/O/MC6-16 (io), 82 I/O/MC4-4 (io), 83 I/O/MC4-2 (io), 84 I/O/MC4-3 (io), 85 TDO (out), 86 GND (power), 87 I/O/MC4-5 (io), 88 I/O/MC4-6 (io), 89 I/O/MC4-8 (io), 90 VCC IO (power), 91 I/O/MC4-9 (io), 92 I/O/MC4-11 (io), 93 I/O/MC4-12 (io), 94 I/O/MC4-16 (io), 95 I/O/MC4-14 (io), 96 I/O/MC4-15 (io), 97 I/O/MC4-17 (io), 98 I/O/MC2-2 (io), 99 I/O/MC2-3 (io), 100 VCC INT (power)

## XC95108-7PQ160C
designator U?
XC9500, 5V CPLD with 108 Macrocells, 160-Pin PQFP, Commercial Grade; PackageDocument: ver1.1, Oct-2002; Published: 8-Jun-2000; LatestRevisionDate: 17-Jul-2002; LatestRevisionNote: PCB footprint, 'QFP28x28-G160/D28N' replaced; Re-released for DXP Platform.; DatasheetDocument: ver4.3, Mar-2004; PackageReference: PQ160; Publisher: Altium Limited; Code_JEDEC: MS-022-DD1
footprint PQ160 (160-Pin Plastic Quad Flat Pack (PQ160))
3D model XC95108-PQ160 (160-Pin Plastic Quad Flat Pack (PQ160))
signal-integrity model XC95108_PQ160 (XC9500)
pins: 1 VCC IO (power), 2 I/O/MC2-6 (io), 3 NC, 4 I/O/MC2-4 (io), 5 NC, 6 I/O/GTS1/MC2-8 (io), 7 NC, 8 I/O/GTS2/MC2-9 (io), 9 I/O/MC2-7 (io), 10 VCC INT (power), 11 I/O/MC2-11 (io), 12 I/O/MC2-10 (io), 13 I/O/MC2-12 (io), 14 I/O/MC2-13 (io), 15 I/O/MC2-14 (io), 16 I/O/MC2-18 (io), 17 I/O/MC2-15 (io), 18 I/O/MC2-16 (io), 19 I/O/MC2-17 (io), 20 GND (power), 21 I/O/MC1-2 (io), 22 I/O/MC1-3 (io), 23 I/O/MC1-5 (io), 24 I/O/MC1-6 (io), 25 I/O/MC1-1 (io), 26 I/O/MC1-8 (io), 27 I/O/MC1-7 (io), 28 I/O/MC1-9 (io), 29 I/O/MC1-4 (io), 30 I/O/MC1-11 (io), 31 GND (power), 32 NC, 33 I/O/GCK1/MC1-12 (io), 34 I/O/MC1-13 (io), 35 I/O/GCK2/MC1-14 (io), 36 I/O/MC1-10 (io), 37 I/O/MC1-15 (io), 38 NC, 39 NC, 40 GND (power), 41 VCC IO (power), 42 I/O/GCK3/MC1-16 (io), 43 I/O/MC1-18 (io), 44 I/O/MC1-17 (io), 45 I/O/MC3-1 (io), 46 VCC INT (power), 47 I/O/MC3-2 (io), 48 NC, 49 I/O/MC3-3 (io), 50 I/O/MC3-7 (io), 51 GND (power), 52 I/O/MC3-13 (io), 53 NC, 54 I/O/MC3-5 (io), 55 NC, 56 I/O/MC3-6 (io), 57 I/O/MC3-4 (io), 58 I/O/MC3-8 (io), 59 I/O/MC3-9 (io), 60 I/O/MC3-11 (io), 61 VCC IO (power), 62 I/O/MC3-12 (io), 63 I/O/MC3-14 (io), 64 I/O/MC3-15 (io), 65 NC, 66 NC, 67 NC, 68 I/O/MC3-16 (io), 69 I/O/MC3-10 (io), 70 GND (power), 71 TDI (in), 72 I/O/MC5-4 (io), 73 TMS (in), 74 I/O/MC3-18 (io), 75 TCK (in), 76 I/O/MC5-1 (io), 77 I/O/MC3-17 (io), 78 I/O/MC5-7 (io), 79 I/O/MC5-2 (io), 80 GND (power), 81 VCC IO (power), 82 I/O/MC5-3 (io), 83 NC, 84 I/O/MC5-10 (io), 85 NC, 86 I/O/MC5-5 (io), 87 I/O/MC5-13 (io), 88 I/O/MC5-6 (io), 89 I/O/MC5-18 (io), 90 I/O/MC5-8 (io), 91 I/O/MC6-1 (io), 92 I/O/MC5-9 (io), 93 NC, 94 VCC INT (power), 95 I/O/MC5-11 (io), 96 I/O/MC5-16 (io), 97 I/O/MC5-12 (io), 98 I/O/MC5-14 (io), 99 GND (power), 100 GND (power), 101 I/O/MC5-15 (io), 102 I/O/MC5-17 (io), 103 I/O/MC6-2 (io), 104 I/O/MC6-3 (io), 105 I/O/MC6-7 (io), 106 I/O/MC6-5 (io), 107 I/O/MC6-10 (io), 108 I/O/MC6-6 (io), 109 NC, 110 GND (power), 111 I/O/MC6-8 (io), 112 I/O/MC6-13 (io), 113 I/O/MC6-9 (io), 114 I/O/MC6-18 (io), 115 I/O/MC6-11 (io), 116 I/O/MC6-4 (io), 117 I/O/MC6-12 (io), 118 NC, 119 NC, 120 GND (power), 121 VCC IO (power), 122 I/O/MC6-14 (io), 123 I/O/MC4-1 (io), 124 I/O/MC6-15 (io), 125 NC, 126 I/O/MC6-17 (io), 127 GND (power), 128 I/O/MC4-7 (io), 129 I/O/MC6-16 (io), 130 NC, 131 NC, 132 NC, 133 I/O/MC4-4 (io), 134 I/O/MC4-2 (io), 135 I/O/MC4-3 (io), 136 TDO (out), 137 GND (power), 138 I/O/MC4-5 (io), 139 I/O/MC4-6 (io), 140 I/O/MC4-8 (io), 141 VCC IO (power), 142 I/O/MC4-9 (io), 143 I/O/MC4-11 (io), 144 I/O/MC4-12 (io), 145 I/O/MC4-16 (io), 146 I/O/MC4-14 (io), 147 I/O/MC4-10 (io), 148 I/O/MC4-15 (io), 149 NC, 150 NC, 151 NC, 152 I/O/MC4-17 (io), 153 I/O/MC4-13 (io), 154 I/O/MC2-2 (io), 155 I/O/MC4-18 (io), 156 I/O/MC2-3 (io), 157 VCC INT (power), 158 I/O/MC2-1 (io), 159 I/O/GSR/MC2-5 (io), 160 GND (power)

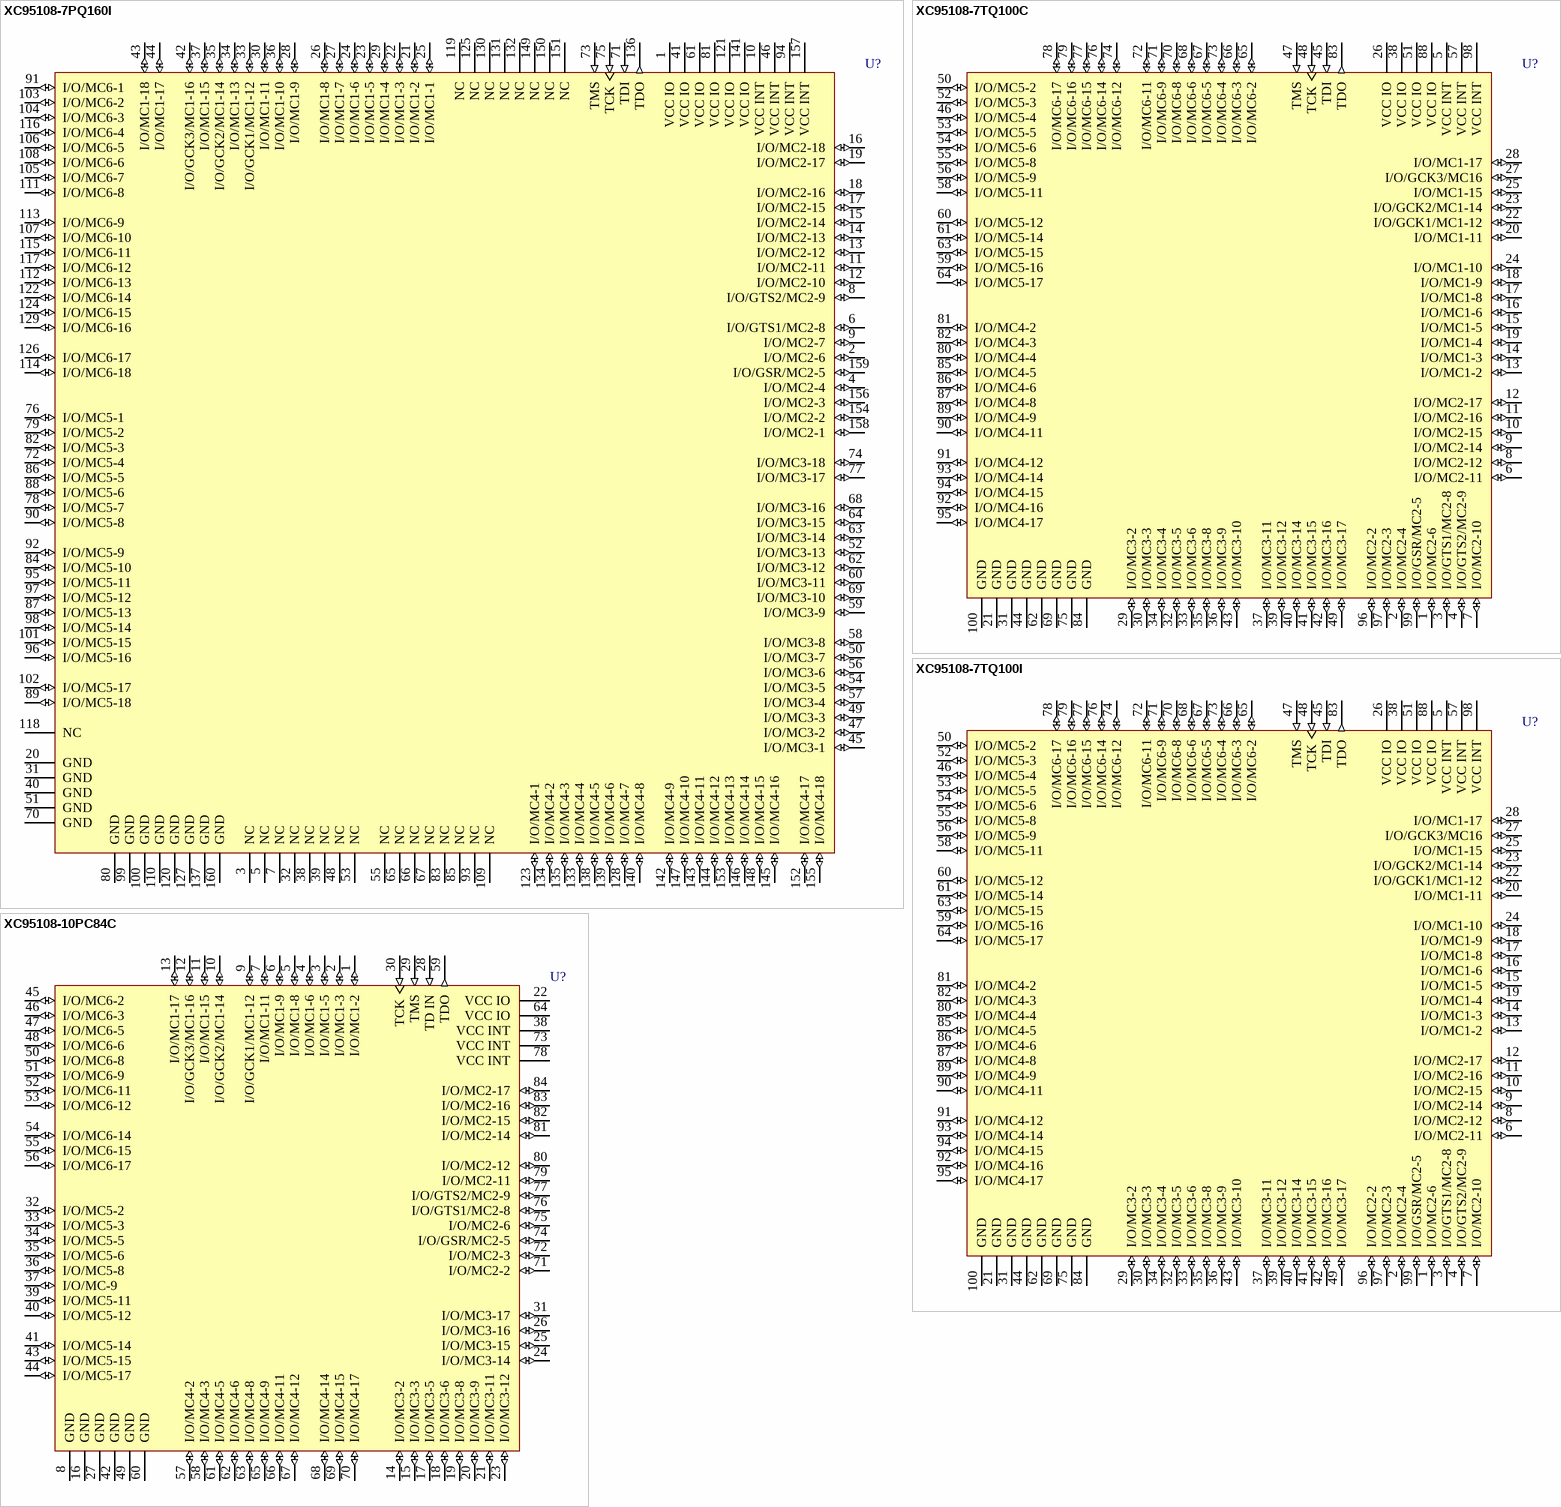
[diagram p8: symbols XC95108-7PQ160I to XC95108-10PC84C]

## XC95108-7PQ160I
designator U?
XC9500, 5V CPLD with 108 Macrocells, 160-Pin PQFP, Industrial Grade; PackageDocument: ver1.1, Oct-2002; Published: 17-Sep-2003; DatasheetDocument: ver4.3, Mar-2004; PackageReference: PQ160; Publisher: Altium Limited; Code_JEDEC: MS-022-DD1
footprint PQ160 (160-Pin Plastic Quad Flat Pack (PQ160))
3D model XC95108-PQ160 (160-Pin Plastic Quad Flat Pack (PQ160))
signal-integrity model XC95108_PQ160 (XC9500)
pins: 1 VCC IO (power), 2 I/O/MC2-6 (io), 3 NC, 4 I/O/MC2-4 (io), 5 NC, 6 I/O/GTS1/MC2-8 (io), 7 NC, 8 I/O/GTS2/MC2-9 (io), 9 I/O/MC2-7 (io), 10 VCC INT (power), 11 I/O/MC2-11 (io), 12 I/O/MC2-10 (io), 13 I/O/MC2-12 (io), 14 I/O/MC2-13 (io), 15 I/O/MC2-14 (io), 16 I/O/MC2-18 (io), 17 I/O/MC2-15 (io), 18 I/O/MC2-16 (io), 19 I/O/MC2-17 (io), 20 GND (power), 21 I/O/MC1-2 (io), 22 I/O/MC1-3 (io), 23 I/O/MC1-5 (io), 24 I/O/MC1-6 (io), 25 I/O/MC1-1 (io), 26 I/O/MC1-8 (io), 27 I/O/MC1-7 (io), 28 I/O/MC1-9 (io), 29 I/O/MC1-4 (io), 30 I/O/MC1-11 (io), 31 GND (power), 32 NC, 33 I/O/GCK1/MC1-12 (io), 34 I/O/MC1-13 (io), 35 I/O/GCK2/MC1-14 (io), 36 I/O/MC1-10 (io), 37 I/O/MC1-15 (io), 38 NC, 39 NC, 40 GND (power), 41 VCC IO (power), 42 I/O/GCK3/MC1-16 (io), 43 I/O/MC1-18 (io), 44 I/O/MC1-17 (io), 45 I/O/MC3-1 (io), 46 VCC INT (power), 47 I/O/MC3-2 (io), 48 NC, 49 I/O/MC3-3 (io), 50 I/O/MC3-7 (io), 51 GND (power), 52 I/O/MC3-13 (io), 53 NC, 54 I/O/MC3-5 (io), 55 NC, 56 I/O/MC3-6 (io), 57 I/O/MC3-4 (io), 58 I/O/MC3-8 (io), 59 I/O/MC3-9 (io), 60 I/O/MC3-11 (io), 61 VCC IO (power), 62 I/O/MC3-12 (io), 63 I/O/MC3-14 (io), 64 I/O/MC3-15 (io), 65 NC, 66 NC, 67 NC, 68 I/O/MC3-16 (io), 69 I/O/MC3-10 (io), 70 GND (power), 71 TDI (in), 72 I/O/MC5-4 (io), 73 TMS (in), 74 I/O/MC3-18 (io), 75 TCK (in), 76 I/O/MC5-1 (io), 77 I/O/MC3-17 (io), 78 I/O/MC5-7 (io), 79 I/O/MC5-2 (io), 80 GND (power), 81 VCC IO (power), 82 I/O/MC5-3 (io), 83 NC, 84 I/O/MC5-10 (io), 85 NC, 86 I/O/MC5-5 (io), 87 I/O/MC5-13 (io), 88 I/O/MC5-6 (io), 89 I/O/MC5-18 (io), 90 I/O/MC5-8 (io), 91 I/O/MC6-1 (io), 92 I/O/MC5-9 (io), 93 NC, 94 VCC INT (power), 95 I/O/MC5-11 (io), 96 I/O/MC5-16 (io), 97 I/O/MC5-12 (io), 98 I/O/MC5-14 (io), 99 GND (power), 100 GND (power), 101 I/O/MC5-15 (io), 102 I/O/MC5-17 (io), 103 I/O/MC6-2 (io), 104 I/O/MC6-3 (io), 105 I/O/MC6-7 (io), 106 I/O/MC6-5 (io), 107 I/O/MC6-10 (io), 108 I/O/MC6-6 (io), 109 NC, 110 GND (power), 111 I/O/MC6-8 (io), 112 I/O/MC6-13 (io), 113 I/O/MC6-9 (io), 114 I/O/MC6-18 (io), 115 I/O/MC6-11 (io), 116 I/O/MC6-4 (io), 117 I/O/MC6-12 (io), 118 NC, 119 NC, 120 GND (power), 121 VCC IO (power), 122 I/O/MC6-14 (io), 123 I/O/MC4-1 (io), 124 I/O/MC6-15 (io), 125 NC, 126 I/O/MC6-17 (io), 127 GND (power), 128 I/O/MC4-7 (io), 129 I/O/MC6-16 (io), 130 NC, 131 NC, 132 NC, 133 I/O/MC4-4 (io), 134 I/O/MC4-2 (io), 135 I/O/MC4-3 (io), 136 TDO (out), 137 GND (power), 138 I/O/MC4-5 (io), 139 I/O/MC4-6 (io), 140 I/O/MC4-8 (io), 141 VCC IO (power), 142 I/O/MC4-9 (io), 143 I/O/MC4-11 (io), 144 I/O/MC4-12 (io), 145 I/O/MC4-16 (io), 146 I/O/MC4-14 (io), 147 I/O/MC4-10 (io), 148 I/O/MC4-15 (io), 149 NC, 150 NC, 151 NC, 152 I/O/MC4-17 (io), 153 I/O/MC4-13 (io), 154 I/O/MC2-2 (io), 155 I/O/MC4-18 (io), 156 I/O/MC2-3 (io), 157 VCC INT (power), 158 I/O/MC2-1 (io), 159 I/O/GSR/MC2-5 (io), 160 GND (power)

## XC95108-7TQ100C
designator U?
XC9500, 5V CPLD with 108 Macrocells, 100-Pin TQFP, Commercial Grade; PackageDocument: ver1.1, Oct-2002; Published: 8-Jun-2000; LatestRevisionDate: 17-Jul-2002; LatestRevisionNote: Re-released for DXP Platform.; DatasheetDocument: ver4.3, Mar-2004; PackageReference: TQ100; Publisher: Altium Limited; Code_IPC: SQFP14X14-100
footprint TQ100 (100-Pin Thin Quad Flat Pack (TQ100))
3D model XC95108-TQ100 (100-Pin Thin Quad Flat Pack (TQ100))
signal-integrity model XC95108_TQ100 (XC9500)
pins: 1 I/O/MC2-6 (io), 2 I/O/MC2-4 (io), 3 I/O/GTS1/MC2-8 (io), 4 I/O/GTS2/MC2-9 (io), 5 VCC INT (power), 6 I/O/MC2-11 (io), 7 I/O/MC2-10 (io), 8 I/O/MC2-12 (io), 9 I/O/MC2-14 (io), 10 I/O/MC2-15 (io), 11 I/O/MC2-16 (io), 12 I/O/MC2-17 (io), 13 I/O/MC1-2 (io), 14 I/O/MC1-3 (io), 15 I/O/MC1-5 (io), 16 I/O/MC1-6 (io), 17 I/O/MC1-8 (io), 18 I/O/MC1-9 (io), 19 I/O/MC1-4 (io), 20 I/O/MC1-11 (io), 21 GND (power), 22 I/O/GCK1/MC1-12 (io), 23 I/O/GCK2/MC1-14 (io), 24 I/O/MC1-10 (io), 25 I/O/MC1-15 (io), 26 VCC IO (power), 27 I/O/GCK3/MC16 (io), 28 I/O/MC1-17 (io), 29 I/O/MC3-2 (io), 30 I/O/MC3-3 (io), 31 GND (power), 32 I/O/MC3-5 (io), 33 I/O/MC3-6 (io), 34 I/O/MC3-4 (io), 35 I/O/MC3-8 (io), 36 I/O/MC3-9 (io), 37 I/O/MC3-11 (io), 38 VCC IO (power), 39 I/O/MC3-12 (io), 40 I/O/MC3-14 (io), 41 I/O/MC3-15 (io), 42 I/O/MC3-16 (io), 43 I/O/MC3-10 (io), 44 GND (power), 45 TDI (in), 46 I/O/MC5-4 (io), 47 TMS (in), 48 TCK (in), 49 I/O/MC3-17 (io), 50 I/O/MC5-2 (io), 51 VCC IO (power), 52 I/O/MC5-3 (io), 53 I/O/MC5-5 (io), 54 I/O/MC5-6 (io), 55 I/O/MC5-8 (io), 56 I/O/MC5-9 (io), 57 VCC INT (power), 58 I/O/MC5-11 (io), 59 I/O/MC5-16 (io), 60 I/O/MC5-12 (io), 61 I/O/MC5-14 (io), 62 GND (power), 63 I/O/MC5-15 (io), 64 I/O/MC5-17 (io), 65 I/O/MC6-2 (io), 66 I/O/MC6-3 (io), 67 I/O/MC6-5 (io), 68 I/O/MC6-6 (io), 69 GND (power), 70 I/O/MC6-8 (io), 71 I/O/MC6-9 (io), 72 I/O/MC6-11 (io), 73 I/O/MC6-4 (io), 74 I/O/MC6-12 (io), 75 GND (power), 76 I/O/MC6-14 (io), 77 I/O/MC6-15 (io), 78 I/O/MC6-17 (io), 79 I/O/MC6-16 (io), 80 I/O/MC4-4 (io), 81 I/O/MC4-2 (io), 82 I/O/MC4-3 (io), 83 TDO (out), 84 GND (power), 85 I/O/MC4-5 (io), 86 I/O/MC4-6 (io), 87 I/O/MC4-8 (io), 88 VCC IO (power), 89 I/O/MC4-9 (io), 90 I/O/MC4-11 (io), 91 I/O/MC4-12 (io), 92 I/O/MC4-16 (io), 93 I/O/MC4-14 (io), 94 I/O/MC4-15 (io), 95 I/O/MC4-17 (io), 96 I/O/MC2-2 (io), 97 I/O/MC2-3 (io), 98 VCC INT (power), 99 I/O/GSR/MC2-5 (io), 100 GND (power)

## XC95108-7TQ100I
designator U?
XC9500, 5V CPLD with 108 Macrocells, 100-Pin TQFP, Industrial Grade; PackageDocument: ver1.1, Oct-2002; Published: 17-Sep-2003; DatasheetDocument: ver4.3, Mar-2004; PackageReference: TQ100; Publisher: Altium Limited; Code_IPC: SQFP14X14-100
footprint TQ100 (100-Pin Thin Quad Flat Pack (TQ100))
3D model XC95108-TQ100 (100-Pin Thin Quad Flat Pack (TQ100))
signal-integrity model XC95108_TQ100 (XC9500)
pins: 1 I/O/MC2-6 (io), 2 I/O/MC2-4 (io), 3 I/O/GTS1/MC2-8 (io), 4 I/O/GTS2/MC2-9 (io), 5 VCC INT (power), 6 I/O/MC2-11 (io), 7 I/O/MC2-10 (io), 8 I/O/MC2-12 (io), 9 I/O/MC2-14 (io), 10 I/O/MC2-15 (io), 11 I/O/MC2-16 (io), 12 I/O/MC2-17 (io), 13 I/O/MC1-2 (io), 14 I/O/MC1-3 (io), 15 I/O/MC1-5 (io), 16 I/O/MC1-6 (io), 17 I/O/MC1-8 (io), 18 I/O/MC1-9 (io), 19 I/O/MC1-4 (io), 20 I/O/MC1-11 (io), 21 GND (power), 22 I/O/GCK1/MC1-12 (io), 23 I/O/GCK2/MC1-14 (io), 24 I/O/MC1-10 (io), 25 I/O/MC1-15 (io), 26 VCC IO (power), 27 I/O/GCK3/MC16 (io), 28 I/O/MC1-17 (io), 29 I/O/MC3-2 (io), 30 I/O/MC3-3 (io), 31 GND (power), 32 I/O/MC3-5 (io), 33 I/O/MC3-6 (io), 34 I/O/MC3-4 (io), 35 I/O/MC3-8 (io), 36 I/O/MC3-9 (io), 37 I/O/MC3-11 (io), 38 VCC IO (power), 39 I/O/MC3-12 (io), 40 I/O/MC3-14 (io), 41 I/O/MC3-15 (io), 42 I/O/MC3-16 (io), 43 I/O/MC3-10 (io), 44 GND (power), 45 TDI (in), 46 I/O/MC5-4 (io), 47 TMS (in), 48 TCK (in), 49 I/O/MC3-17 (io), 50 I/O/MC5-2 (io), 51 VCC IO (power), 52 I/O/MC5-3 (io), 53 I/O/MC5-5 (io), 54 I/O/MC5-6 (io), 55 I/O/MC5-8 (io), 56 I/O/MC5-9 (io), 57 VCC INT (power), 58 I/O/MC5-11 (io), 59 I/O/MC5-16 (io), 60 I/O/MC5-12 (io), 61 I/O/MC5-14 (io), 62 GND (power), 63 I/O/MC5-15 (io), 64 I/O/MC5-17 (io), 65 I/O/MC6-2 (io), 66 I/O/MC6-3 (io), 67 I/O/MC6-5 (io), 68 I/O/MC6-6 (io), 69 GND (power), 70 I/O/MC6-8 (io), 71 I/O/MC6-9 (io), 72 I/O/MC6-11 (io), 73 I/O/MC6-4 (io), 74 I/O/MC6-12 (io), 75 GND (power), 76 I/O/MC6-14 (io), 77 I/O/MC6-15 (io), 78 I/O/MC6-17 (io), 79 I/O/MC6-16 (io), 80 I/O/MC4-4 (io), 81 I/O/MC4-2 (io), 82 I/O/MC4-3 (io), 83 TDO (out), 84 GND (power), 85 I/O/MC4-5 (io), 86 I/O/MC4-6 (io), 87 I/O/MC4-8 (io), 88 VCC IO (power), 89 I/O/MC4-9 (io), 90 I/O/MC4-11 (io), 91 I/O/MC4-12 (io), 92 I/O/MC4-16 (io), 93 I/O/MC4-14 (io), 94 I/O/MC4-15 (io), 95 I/O/MC4-17 (io), 96 I/O/MC2-2 (io), 97 I/O/MC2-3 (io), 98 VCC INT (power), 99 I/O/GSR/MC2-5 (io), 100 GND (power)

## XC95108-10PC84C
designator U?
XC9500, 5V CPLD with 108 Macrocells, 84-Pin PLCC, Commercial Grade; PackageDocument: ver1.0, Jun-2000; Published: 8-Jun-2000; LatestRevisionDate: 17-Sep-2003; LatestRevisionNote: PCB Footprint dimensions updated; DatasheetDocument: ver4.3, Mar-2004; PackageReference: PC84; Publisher: Altium Limited; Code_JEDEC: MS-047; Code_IPC: PLCC-84
footprint PC84 (84-Pin Plastic Leaded Chip Carrier (PC84))
3D model XC95108-PC84 (84-Pin Plastic Leaded Chip Carrier (PC84))
signal-integrity model XC95108_PLCC84 (XC9500)
pins: 1 I/O/MC1-2 (io), 2 I/O/MC1-3 (io), 3 I/O/MC1-5 (io), 4 I/O/MC1-6 (io), 5 I/O/MC1-8 (io), 6 I/O/MC1-9 (io), 7 I/O/MC1-11 (io), 8 GND (power), 9 I/O/GCK1/MC1-12 (io), 10 I/O/GCK2/MC1-14 (io), 11 I/O/MC1-15 (io), 12 I/O/GCK3/MC1-16 (io), 13 I/O/MC1-17 (io), 14 I/O/MC3-2 (io), 15 I/O/MC3-3 (io), 16 GND (power), 17 I/O/MC3-5 (io), 18 I/O/MC3-6 (io), 19 I/O/MC3-8 (io), 20 I/O/MC3-9 (io), 21 I/O/MC3-11 (io), 22 VCC IO (power), 23 I/O/MC3-12 (io), 24 I/O/MC3-14 (io), 25 I/O/MC3-15 (io), 26 I/O/MC3-16 (io), 27 GND (power), 28 TD IN (in), 29 TMS (in), 30 TCK (in), 31 I/O/MC3-17 (io), 32 I/O/MC5-2 (io), 33 I/O/MC5-3 (io), 34 I/O/MC5-5 (io), 35 I/O/MC5-6 (io), 36 I/O/MC5-8 (io), 37 I/O/MC-9 (io), 38 VCC INT (power), 39 I/O/MC5-11 (io), 40 I/O/MC5-12 (io), 41 I/O/MC5-14 (io), 42 GND (power), 43 I/O/MC5-15 (io), 44 I/O/MC5-17 (io), 45 I/O/MC6-2 (io), 46 I/O/MC6-3 (io), 47 I/O/MC6-5 (io), 48 I/O/MC6-6 (io), 49 GND (power), 50 I/O/MC6-8 (io), 51 I/O/MC6-9 (io), 52 I/O/MC6-11 (io), 53 I/O/MC6-12 (io), 54 I/O/MC6-14 (io), 55 I/O/MC6-15 (io), 56 I/O/MC6-17 (io), 57 I/O/MC4-2 (io), 58 I/O/MC4-3 (io), 59 TDO (out), 60 GND (power), 61 I/O/MC4-5 (io), 62 I/O/MC4-6 (io), 63 I/O/MC4-8 (io), 64 VCC IO (power), 65 I/O/MC4-9 (io), 66 I/O/MC4-11 (io), 67 I/O/MC4-12 (io), 68 I/O/MC4-14 (io), 69 I/O/MC4-15 (io), 70 I/O/MC4-17 (io), 71 I/O/MC2-2 (io), 72 I/O/MC2-3 (io), 73 VCC INT (power), 74 I/O/GSR/MC2-5 (io), 75 I/O/MC2-6 (io), 76 I/O/GTS1/MC2-8 (io), 77 I/O/GTS2/MC2-9 (io), 78 VCC INT (power), 79 I/O/MC2-11 (io), 80 I/O/MC2-12 (io), 81 I/O/MC2-14 (io), 82 I/O/MC2-15 (io), 83 I/O/MC2-16 (io), 84 I/O/MC2-17 (io)

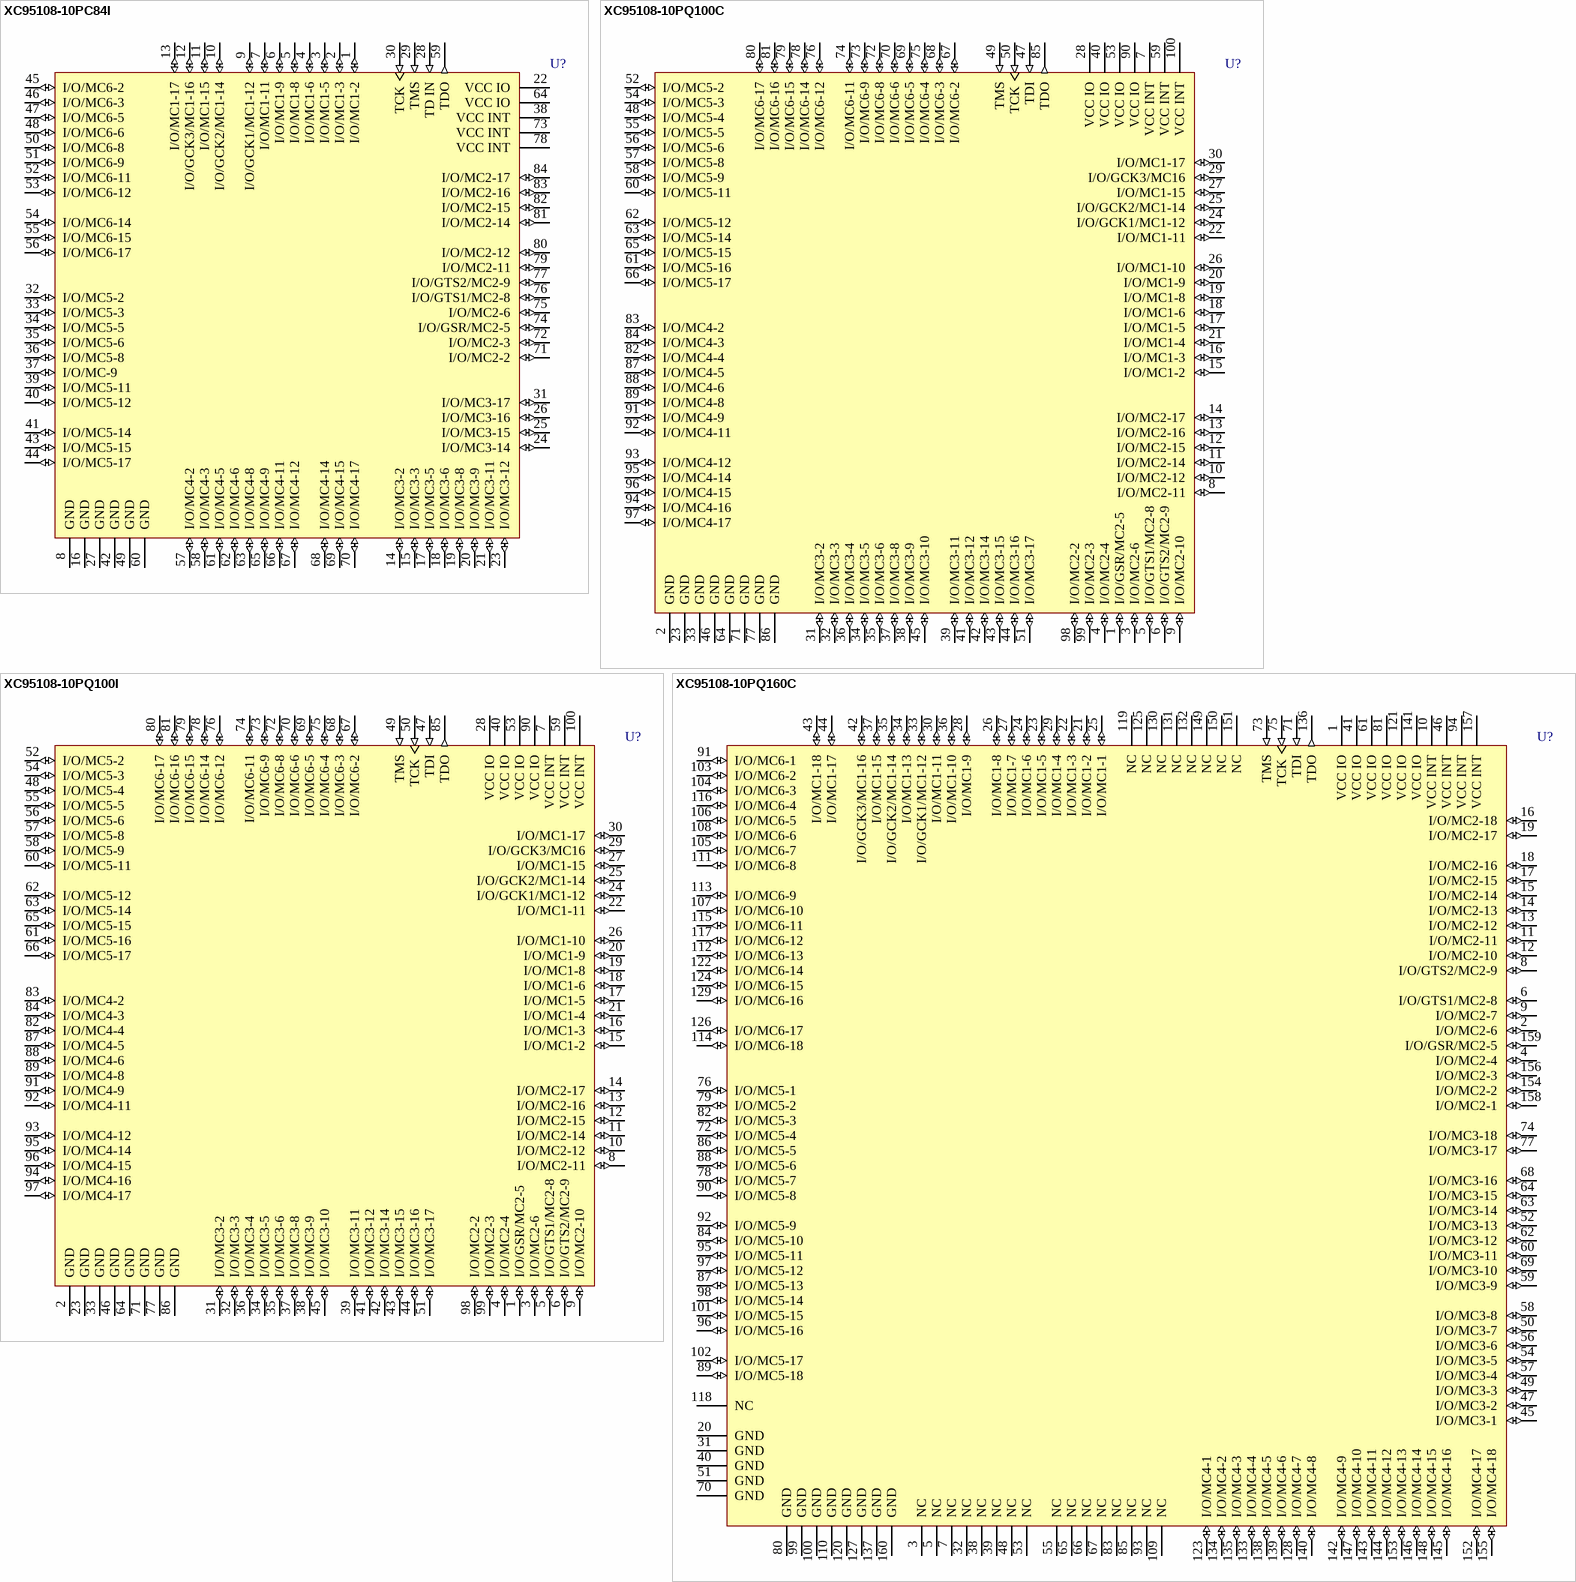
[diagram p9: symbols XC95108-10PC84I to XC95108-10PQ160C]

## XC95108-10PC84I
designator U?
XC9500, 5V CPLD with 108 Macrocells, 84-Pin PLCC, Industrial Grade; PackageDocument: ver1.0, Jun-2000; Published: 8-Jun-2000; LatestRevisionDate: 17-Sep-2003; LatestRevisionNote: PCB Footprint dimensions updated; DatasheetDocument: ver4.3, Mar-2004; PackageReference: PC84; Publisher: Altium Limited; Code_JEDEC: MS-047; Code_IPC: PLCC-84
footprint PC84 (84-Pin Plastic Leaded Chip Carrier (PC84))
3D model XC95108-PC84 (84-Pin Plastic Leaded Chip Carrier (PC84))
signal-integrity model XC95108_PLCC84 (XC9500)
pins: 1 I/O/MC1-2 (io), 2 I/O/MC1-3 (io), 3 I/O/MC1-5 (io), 4 I/O/MC1-6 (io), 5 I/O/MC1-8 (io), 6 I/O/MC1-9 (io), 7 I/O/MC1-11 (io), 8 GND (power), 9 I/O/GCK1/MC1-12 (io), 10 I/O/GCK2/MC1-14 (io), 11 I/O/MC1-15 (io), 12 I/O/GCK3/MC1-16 (io), 13 I/O/MC1-17 (io), 14 I/O/MC3-2 (io), 15 I/O/MC3-3 (io), 16 GND (power), 17 I/O/MC3-5 (io), 18 I/O/MC3-6 (io), 19 I/O/MC3-8 (io), 20 I/O/MC3-9 (io), 21 I/O/MC3-11 (io), 22 VCC IO (power), 23 I/O/MC3-12 (io), 24 I/O/MC3-14 (io), 25 I/O/MC3-15 (io), 26 I/O/MC3-16 (io), 27 GND (power), 28 TD IN (in), 29 TMS (in), 30 TCK (in), 31 I/O/MC3-17 (io), 32 I/O/MC5-2 (io), 33 I/O/MC5-3 (io), 34 I/O/MC5-5 (io), 35 I/O/MC5-6 (io), 36 I/O/MC5-8 (io), 37 I/O/MC-9 (io), 38 VCC INT (power), 39 I/O/MC5-11 (io), 40 I/O/MC5-12 (io), 41 I/O/MC5-14 (io), 42 GND (power), 43 I/O/MC5-15 (io), 44 I/O/MC5-17 (io), 45 I/O/MC6-2 (io), 46 I/O/MC6-3 (io), 47 I/O/MC6-5 (io), 48 I/O/MC6-6 (io), 49 GND (power), 50 I/O/MC6-8 (io), 51 I/O/MC6-9 (io), 52 I/O/MC6-11 (io), 53 I/O/MC6-12 (io), 54 I/O/MC6-14 (io), 55 I/O/MC6-15 (io), 56 I/O/MC6-17 (io), 57 I/O/MC4-2 (io), 58 I/O/MC4-3 (io), 59 TDO (out), 60 GND (power), 61 I/O/MC4-5 (io), 62 I/O/MC4-6 (io), 63 I/O/MC4-8 (io), 64 VCC IO (power), 65 I/O/MC4-9 (io), 66 I/O/MC4-11 (io), 67 I/O/MC4-12 (io), 68 I/O/MC4-14 (io), 69 I/O/MC4-15 (io), 70 I/O/MC4-17 (io), 71 I/O/MC2-2 (io), 72 I/O/MC2-3 (io), 73 VCC INT (power), 74 I/O/GSR/MC2-5 (io), 75 I/O/MC2-6 (io), 76 I/O/GTS1/MC2-8 (io), 77 I/O/GTS2/MC2-9 (io), 78 VCC INT (power), 79 I/O/MC2-11 (io), 80 I/O/MC2-12 (io), 81 I/O/MC2-14 (io), 82 I/O/MC2-15 (io), 83 I/O/MC2-16 (io), 84 I/O/MC2-17 (io)

## XC95108-10PQ100C
designator U?
XC9500, 5V CPLD with 108 Macrocells, 100-Pin PQFP, Commercial Grade; PackageDocument: ver1.2, Oct-2002; Published: 8-Jun-2000; LatestRevisionDate: 17-Sep-2003; LatestRevisionNote: PCB Footprint dimensions updated; DatasheetDocument: ver4.3, Mar-2004; PackageReference: PQ100; Publisher: Altium Limited; Code_IPC: QFP-14X20-100
footprint PQ100 (100-Pin Plastic Quad Flat Pack (PQ100))
3D model XC95108-PQ100 (100-Pin Plastic Quad Flat Pack (PQ100))
signal-integrity model XC95108_PQ100 (XC9500)
pins: 1 I/O/GSR/MC2-5 (io), 2 GND (power), 3 I/O/MC2-6 (io), 4 I/O/MC2-4 (io), 5 I/O/GTS1/MC2-8 (io), 6 I/O/GTS2/MC2-9 (io), 7 VCC INT (power), 8 I/O/MC2-11 (io), 9 I/O/MC2-10 (io), 10 I/O/MC2-12 (io), 11 I/O/MC2-14 (io), 12 I/O/MC2-15 (io), 13 I/O/MC2-16 (io), 14 I/O/MC2-17 (io), 15 I/O/MC1-2 (io), 16 I/O/MC1-3 (io), 17 I/O/MC1-5 (io), 18 I/O/MC1-6 (io), 19 I/O/MC1-8 (io), 20 I/O/MC1-9 (io), 21 I/O/MC1-4 (io), 22 I/O/MC1-11 (io), 23 GND (power), 24 I/O/GCK1/MC1-12 (io), 25 I/O/GCK2/MC1-14 (io), 26 I/O/MC1-10 (io), 27 I/O/MC1-15 (io), 28 VCC IO (power), 29 I/O/GCK3/MC16 (io), 30 I/O/MC1-17 (io), 31 I/O/MC3-2 (io), 32 I/O/MC3-3 (io), 33 GND (power), 34 I/O/MC3-5 (io), 35 I/O/MC3-6 (io), 36 I/O/MC3-4 (io), 37 I/O/MC3-8 (io), 38 I/O/MC3-9 (io), 39 I/O/MC3-11 (io), 40 VCC IO (power), 41 I/O/MC3-12 (io), 42 I/O/MC3-14 (io), 43 I/O/MC3-15 (io), 44 I/O/MC3-16 (io), 45 I/O/MC3-10 (io), 46 GND (power), 47 TDI (in), 48 I/O/MC5-4 (io), 49 TMS (in), 50 TCK (in), 51 I/O/MC3-17 (io), 52 I/O/MC5-2 (io), 53 VCC IO (power), 54 I/O/MC5-3 (io), 55 I/O/MC5-5 (io), 56 I/O/MC5-6 (io), 57 I/O/MC5-8 (io), 58 I/O/MC5-9 (io), 59 VCC INT (power), 60 I/O/MC5-11 (io), 61 I/O/MC5-16 (io), 62 I/O/MC5-12 (io), 63 I/O/MC5-14 (io), 64 GND (power), 65 I/O/MC5-15 (io), 66 I/O/MC5-17 (io), 67 I/O/MC6-2 (io), 68 I/O/MC6-3 (io), 69 I/O/MC6-5 (io), 70 I/O/MC6-6 (io), 71 GND (power), 72 I/O/MC6-8 (io), 73 I/O/MC6-9 (io), 74 I/O/MC6-11 (io), 75 I/O/MC6-4 (io), 76 I/O/MC6-12 (io), 77 GND (power), 78 I/O/MC6-14 (io), 79 I/O/MC6-15 (io), 80 I/O/MC6-17 (io), 81 I/O/MC6-16 (io), 82 I/O/MC4-4 (io), 83 I/O/MC4-2 (io), 84 I/O/MC4-3 (io), 85 TDO (out), 86 GND (power), 87 I/O/MC4-5 (io), 88 I/O/MC4-6 (io), 89 I/O/MC4-8 (io), 90 VCC IO (power), 91 I/O/MC4-9 (io), 92 I/O/MC4-11 (io), 93 I/O/MC4-12 (io), 94 I/O/MC4-16 (io), 95 I/O/MC4-14 (io), 96 I/O/MC4-15 (io), 97 I/O/MC4-17 (io), 98 I/O/MC2-2 (io), 99 I/O/MC2-3 (io), 100 VCC INT (power)

## XC95108-10PQ100I
designator U?
XC9500, 5V CPLD with 108 Macrocells, 100-Pin PQFP, Industrial Grade; PackageDocument: ver1.2, Oct-2002; Published: 8-Jun-2000; LatestRevisionDate: 17-Sep-2003; LatestRevisionNote: PCB Footprint dimensions updated; DatasheetDocument: ver4.3, Mar-2004; PackageReference: PQ100; Publisher: Altium Limited; Code_IPC: QFP-14X20-100
footprint PQ100 (100-Pin Plastic Quad Flat Pack (PQ100))
3D model XC95108-PQ100 (100-Pin Plastic Quad Flat Pack (PQ100))
signal-integrity model XC95108_PQ100 (XC9500)
pins: 1 I/O/GSR/MC2-5 (io), 2 GND (power), 3 I/O/MC2-6 (io), 4 I/O/MC2-4 (io), 5 I/O/GTS1/MC2-8 (io), 6 I/O/GTS2/MC2-9 (io), 7 VCC INT (power), 8 I/O/MC2-11 (io), 9 I/O/MC2-10 (io), 10 I/O/MC2-12 (io), 11 I/O/MC2-14 (io), 12 I/O/MC2-15 (io), 13 I/O/MC2-16 (io), 14 I/O/MC2-17 (io), 15 I/O/MC1-2 (io), 16 I/O/MC1-3 (io), 17 I/O/MC1-5 (io), 18 I/O/MC1-6 (io), 19 I/O/MC1-8 (io), 20 I/O/MC1-9 (io), 21 I/O/MC1-4 (io), 22 I/O/MC1-11 (io), 23 GND (power), 24 I/O/GCK1/MC1-12 (io), 25 I/O/GCK2/MC1-14 (io), 26 I/O/MC1-10 (io), 27 I/O/MC1-15 (io), 28 VCC IO (power), 29 I/O/GCK3/MC16 (io), 30 I/O/MC1-17 (io), 31 I/O/MC3-2 (io), 32 I/O/MC3-3 (io), 33 GND (power), 34 I/O/MC3-5 (io), 35 I/O/MC3-6 (io), 36 I/O/MC3-4 (io), 37 I/O/MC3-8 (io), 38 I/O/MC3-9 (io), 39 I/O/MC3-11 (io), 40 VCC IO (power), 41 I/O/MC3-12 (io), 42 I/O/MC3-14 (io), 43 I/O/MC3-15 (io), 44 I/O/MC3-16 (io), 45 I/O/MC3-10 (io), 46 GND (power), 47 TDI (in), 48 I/O/MC5-4 (io), 49 TMS (in), 50 TCK (in), 51 I/O/MC3-17 (io), 52 I/O/MC5-2 (io), 53 VCC IO (power), 54 I/O/MC5-3 (io), 55 I/O/MC5-5 (io), 56 I/O/MC5-6 (io), 57 I/O/MC5-8 (io), 58 I/O/MC5-9 (io), 59 VCC INT (power), 60 I/O/MC5-11 (io), 61 I/O/MC5-16 (io), 62 I/O/MC5-12 (io), 63 I/O/MC5-14 (io), 64 GND (power), 65 I/O/MC5-15 (io), 66 I/O/MC5-17 (io), 67 I/O/MC6-2 (io), 68 I/O/MC6-3 (io), 69 I/O/MC6-5 (io), 70 I/O/MC6-6 (io), 71 GND (power), 72 I/O/MC6-8 (io), 73 I/O/MC6-9 (io), 74 I/O/MC6-11 (io), 75 I/O/MC6-4 (io), 76 I/O/MC6-12 (io), 77 GND (power), 78 I/O/MC6-14 (io), 79 I/O/MC6-15 (io), 80 I/O/MC6-17 (io), 81 I/O/MC6-16 (io), 82 I/O/MC4-4 (io), 83 I/O/MC4-2 (io), 84 I/O/MC4-3 (io), 85 TDO (out), 86 GND (power), 87 I/O/MC4-5 (io), 88 I/O/MC4-6 (io), 89 I/O/MC4-8 (io), 90 VCC IO (power), 91 I/O/MC4-9 (io), 92 I/O/MC4-11 (io), 93 I/O/MC4-12 (io), 94 I/O/MC4-16 (io), 95 I/O/MC4-14 (io), 96 I/O/MC4-15 (io), 97 I/O/MC4-17 (io), 98 I/O/MC2-2 (io), 99 I/O/MC2-3 (io), 100 VCC INT (power)

## XC95108-10PQ160C
designator U?
XC9500, 5V CPLD with 108 Macrocells, 160-Pin PQFP, Commercial Grade; PackageDocument: ver1.1, Oct-2002; Published: 8-Jun-2000; LatestRevisionDate: 17-Jul-2002; LatestRevisionNote: PCB footprint, 'QFP28x28-G160/D28N' replaced; Re-released for DXP Platform.; DatasheetDocument: ver4.3, Mar-2004; PackageReference: PQ160; Publisher: Altium Limited; Code_JEDEC: MS-022-DD1
footprint PQ160 (160-Pin Plastic Quad Flat Pack (PQ160))
3D model XC95108-PQ160 (160-Pin Plastic Quad Flat Pack (PQ160))
signal-integrity model XC95108_PQ160 (XC9500)
pins: 1 VCC IO (power), 2 I/O/MC2-6 (io), 3 NC, 4 I/O/MC2-4 (io), 5 NC, 6 I/O/GTS1/MC2-8 (io), 7 NC, 8 I/O/GTS2/MC2-9 (io), 9 I/O/MC2-7 (io), 10 VCC INT (power), 11 I/O/MC2-11 (io), 12 I/O/MC2-10 (io), 13 I/O/MC2-12 (io), 14 I/O/MC2-13 (io), 15 I/O/MC2-14 (io), 16 I/O/MC2-18 (io), 17 I/O/MC2-15 (io), 18 I/O/MC2-16 (io), 19 I/O/MC2-17 (io), 20 GND (power), 21 I/O/MC1-2 (io), 22 I/O/MC1-3 (io), 23 I/O/MC1-5 (io), 24 I/O/MC1-6 (io), 25 I/O/MC1-1 (io), 26 I/O/MC1-8 (io), 27 I/O/MC1-7 (io), 28 I/O/MC1-9 (io), 29 I/O/MC1-4 (io), 30 I/O/MC1-11 (io), 31 GND (power), 32 NC, 33 I/O/GCK1/MC1-12 (io), 34 I/O/MC1-13 (io), 35 I/O/GCK2/MC1-14 (io), 36 I/O/MC1-10 (io), 37 I/O/MC1-15 (io), 38 NC, 39 NC, 40 GND (power), 41 VCC IO (power), 42 I/O/GCK3/MC1-16 (io), 43 I/O/MC1-18 (io), 44 I/O/MC1-17 (io), 45 I/O/MC3-1 (io), 46 VCC INT (power), 47 I/O/MC3-2 (io), 48 NC, 49 I/O/MC3-3 (io), 50 I/O/MC3-7 (io), 51 GND (power), 52 I/O/MC3-13 (io), 53 NC, 54 I/O/MC3-5 (io), 55 NC, 56 I/O/MC3-6 (io), 57 I/O/MC3-4 (io), 58 I/O/MC3-8 (io), 59 I/O/MC3-9 (io), 60 I/O/MC3-11 (io), 61 VCC IO (power), 62 I/O/MC3-12 (io), 63 I/O/MC3-14 (io), 64 I/O/MC3-15 (io), 65 NC, 66 NC, 67 NC, 68 I/O/MC3-16 (io), 69 I/O/MC3-10 (io), 70 GND (power), 71 TDI (in), 72 I/O/MC5-4 (io), 73 TMS (in), 74 I/O/MC3-18 (io), 75 TCK (in), 76 I/O/MC5-1 (io), 77 I/O/MC3-17 (io), 78 I/O/MC5-7 (io), 79 I/O/MC5-2 (io), 80 GND (power), 81 VCC IO (power), 82 I/O/MC5-3 (io), 83 NC, 84 I/O/MC5-10 (io), 85 NC, 86 I/O/MC5-5 (io), 87 I/O/MC5-13 (io), 88 I/O/MC5-6 (io), 89 I/O/MC5-18 (io), 90 I/O/MC5-8 (io), 91 I/O/MC6-1 (io), 92 I/O/MC5-9 (io), 93 NC, 94 VCC INT (power), 95 I/O/MC5-11 (io), 96 I/O/MC5-16 (io), 97 I/O/MC5-12 (io), 98 I/O/MC5-14 (io), 99 GND (power), 100 GND (power), 101 I/O/MC5-15 (io), 102 I/O/MC5-17 (io), 103 I/O/MC6-2 (io), 104 I/O/MC6-3 (io), 105 I/O/MC6-7 (io), 106 I/O/MC6-5 (io), 107 I/O/MC6-10 (io), 108 I/O/MC6-6 (io), 109 NC, 110 GND (power), 111 I/O/MC6-8 (io), 112 I/O/MC6-13 (io), 113 I/O/MC6-9 (io), 114 I/O/MC6-18 (io), 115 I/O/MC6-11 (io), 116 I/O/MC6-4 (io), 117 I/O/MC6-12 (io), 118 NC, 119 NC, 120 GND (power), 121 VCC IO (power), 122 I/O/MC6-14 (io), 123 I/O/MC4-1 (io), 124 I/O/MC6-15 (io), 125 NC, 126 I/O/MC6-17 (io), 127 GND (power), 128 I/O/MC4-7 (io), 129 I/O/MC6-16 (io), 130 NC, 131 NC, 132 NC, 133 I/O/MC4-4 (io), 134 I/O/MC4-2 (io), 135 I/O/MC4-3 (io), 136 TDO (out), 137 GND (power), 138 I/O/MC4-5 (io), 139 I/O/MC4-6 (io), 140 I/O/MC4-8 (io), 141 VCC IO (power), 142 I/O/MC4-9 (io), 143 I/O/MC4-11 (io), 144 I/O/MC4-12 (io), 145 I/O/MC4-16 (io), 146 I/O/MC4-14 (io), 147 I/O/MC4-10 (io), 148 I/O/MC4-15 (io), 149 NC, 150 NC, 151 NC, 152 I/O/MC4-17 (io), 153 I/O/MC4-13 (io), 154 I/O/MC2-2 (io), 155 I/O/MC4-18 (io), 156 I/O/MC2-3 (io), 157 VCC INT (power), 158 I/O/MC2-1 (io), 159 I/O/GSR/MC2-5 (io), 160 GND (power)

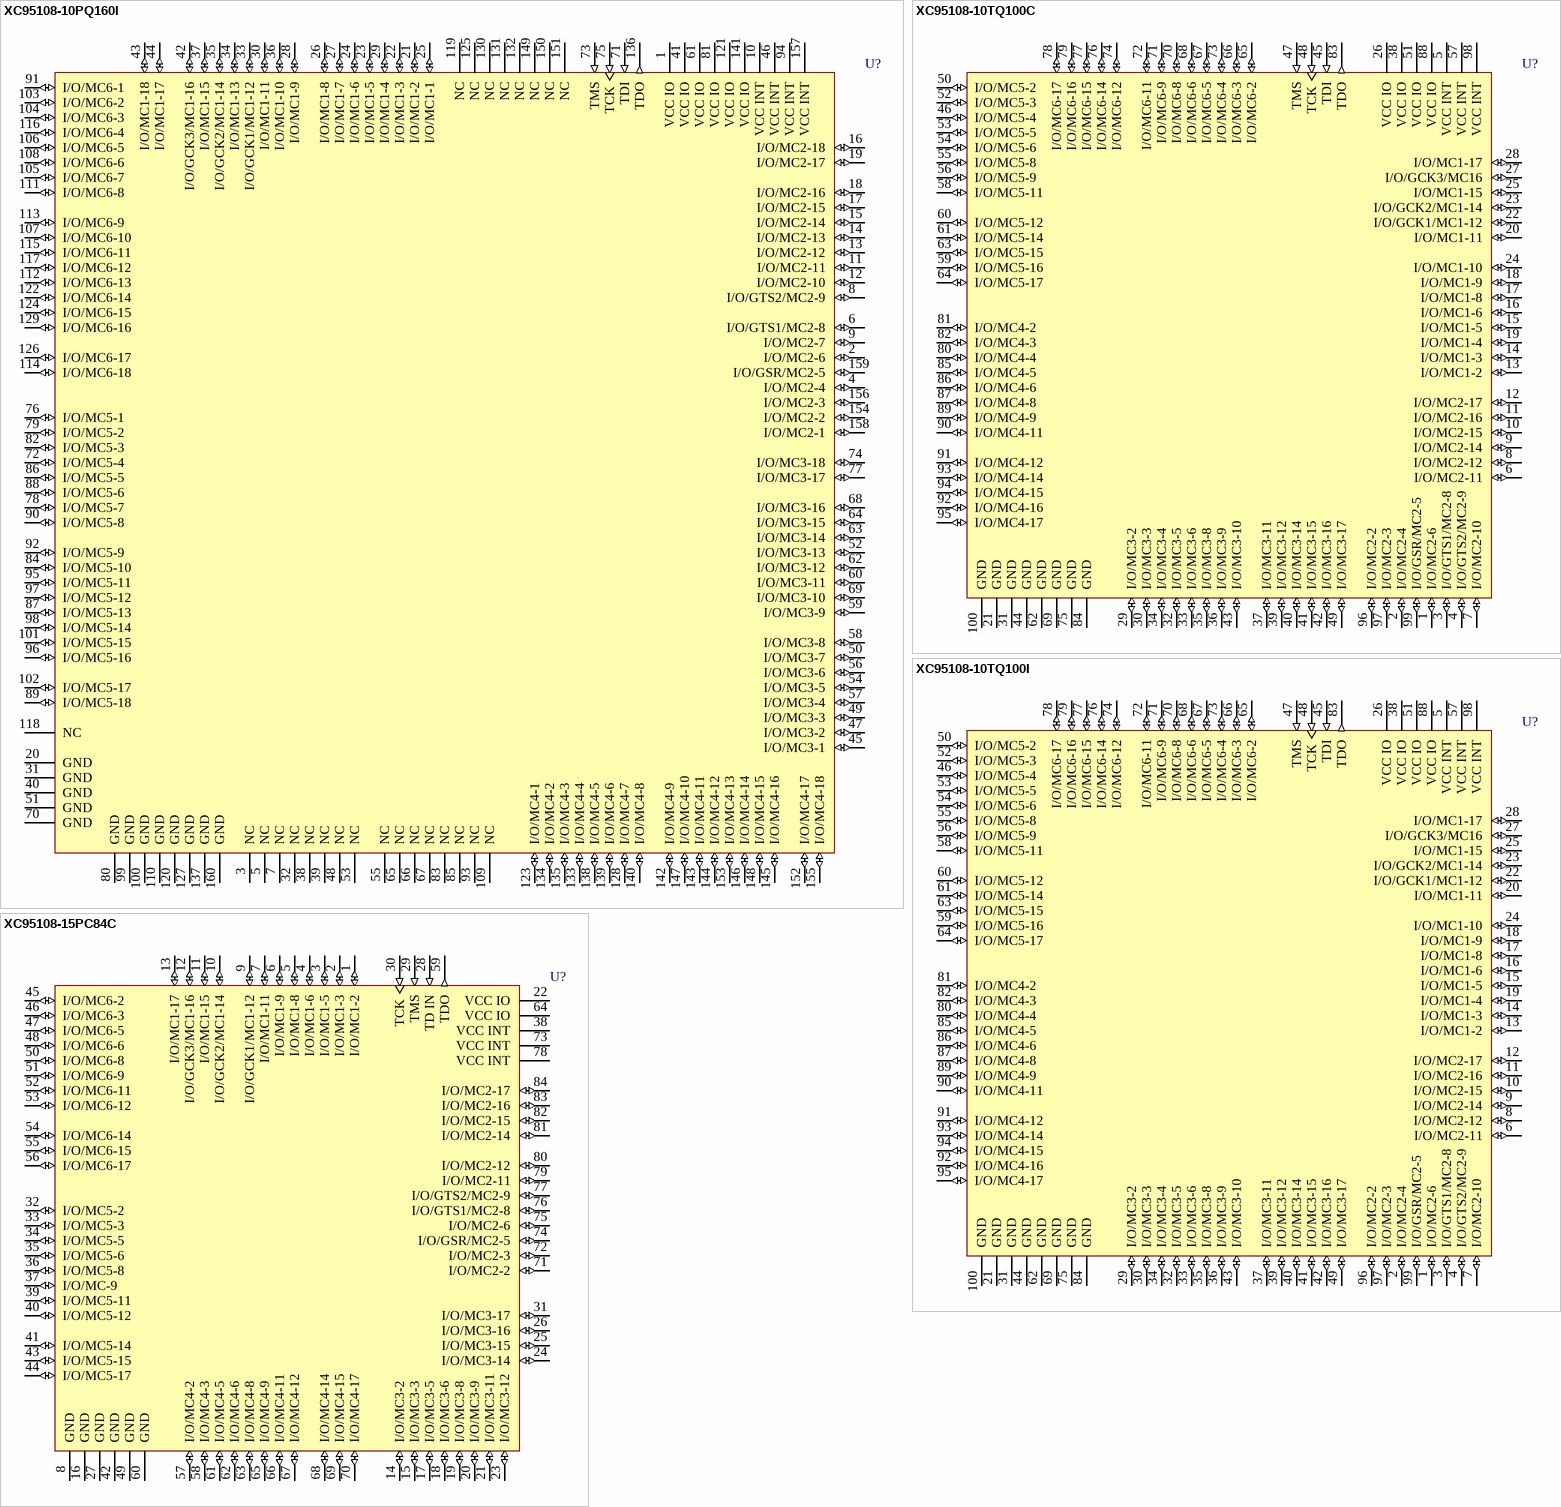
[diagram p10: symbols XC95108-10PQ160I to XC95108-15PC84C]